# Altium integrated library Altera FLEX 8000.IntLib: 65 symbols (part 3 of 5)
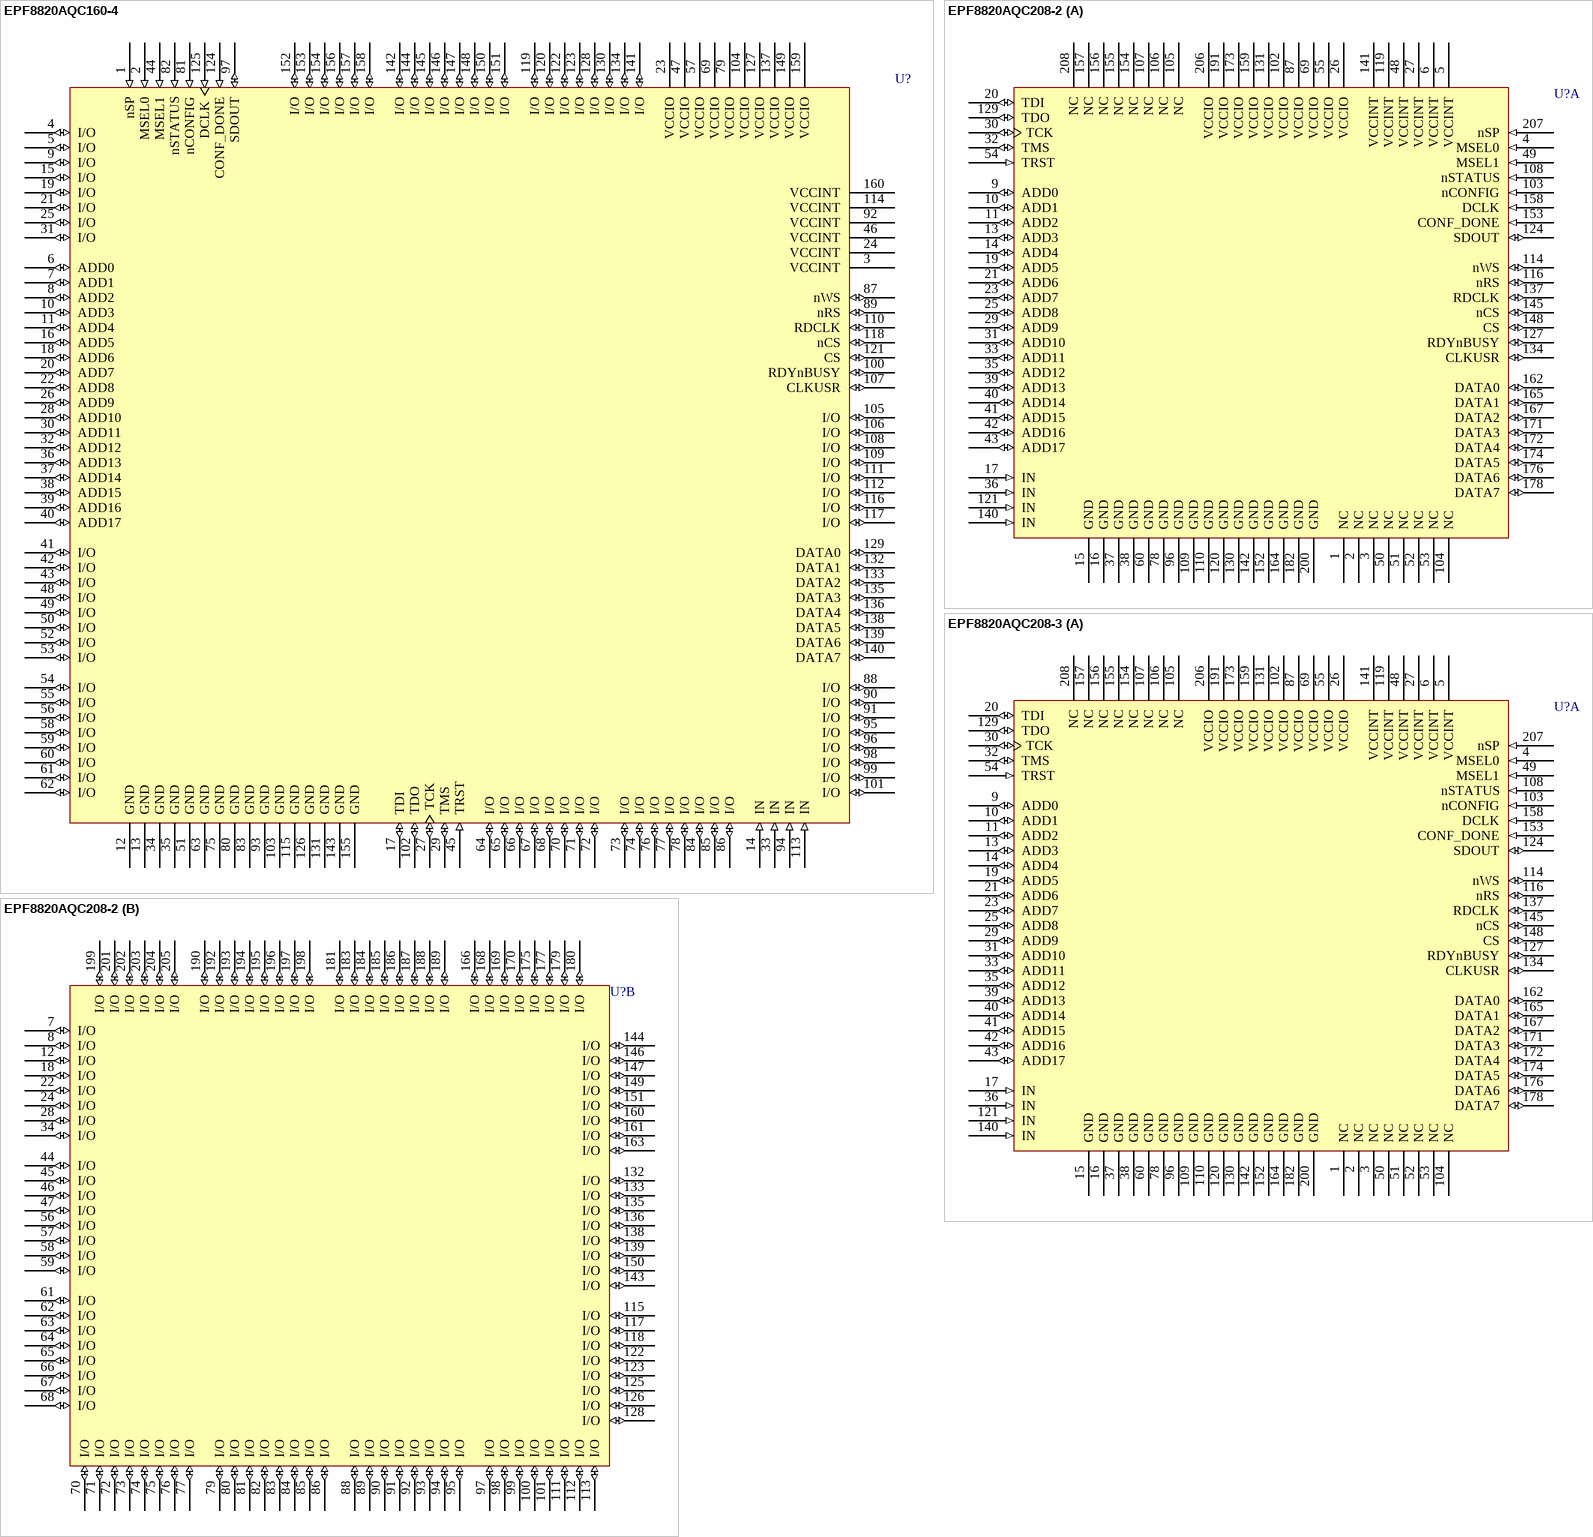
[diagram p41: symbols EPF8820AQC160-4 to EPF8820AQC208-3]

## EPF8820AQC208-2
designator U?
FLEX EPF8820A 5.0V PLD, 152 User IO Pins, 208-Pin PQFP, Speed Grade 2, Commercial Grade; Published: 24-Nov-2000; LatestRevisionDate: 13-Apr-2006; LatestRevisionNote: IPC-7351 Footprint Added.; DatasheetVersion: ver11.1, Jan-2003; PackageVersion: ver14.1, Oct-2005; PackageReference: PQFP208; Publisher: Altium Limited; PackageDescription: 208-Pin Plastic Quad Flat Pack (PQFP208); Code_JEDEC: MS-029-FA-1; ComponentLink1Description: Manufacturer Link; ComponentLink1URL: http://www.altera.com/products/devices/flex8k/f8k-index.html; ComponentLink2Description: Datasheet; ComponentLink2URL: http://www.altera.com/literature/ds/dsf8k.pdf
footprint PQFP208_N (Shrink QFP, 208-Leads, Body 28x28mm, Pitch 0.5mm, IPC Medium Density)
footprint PQFP208_L (Shrink QFP, 208-Leads, Body 28x28mm, Pitch 0.5mm, IPC High Density)
footprint PQFP208_M (Shrink QFP, 208-Leads, Body 28x28mm, Pitch 0.5mm, IPC Low Density)
3D model EPF8820A-PQFP208 (208-Pin Plastic Quad Flat Pack (PQFP208))
part A pins: 1 NC, 2 NC, 3 NC, 4 MSEL0 (in), 5 VCCINT (power), 6 VCCINT (power), 9 ADD0 (io), 10 ADD1 (io), 11 ADD2 (io), 13 ADD3 (io), 14 ADD4 (io), 15 GND (power), 16 GND (power), 17 IN (in), 19 ADD5 (io), 20 TDI (io), 21 ADD6 (io), 23 ADD7 (io), 25 ADD8 (io), 26 VCCIO (power), 27 VCCINT (power), 29 ADD9 (io), 30 TCK (io), 31 ADD10 (io), 32 TMS (io), 33 ADD11 (io), 35 ADD12 (io), 36 IN (in), 37 GND (power), 38 GND (power), 39 ADD13 (io), 40 ADD14 (io), 41 ADD15 (io), 42 ADD16 (io), 43 ADD17 (io), 48 VCCINT (power), 49 MSEL1 (in), 50 NC, 51 NC, 52 NC, 53 NC, 54 TRST (in), 55 VCCIO (power), 60 GND (power), 69 VCCIO (power), 78 GND (power), 87 VCCIO (power), 96 GND (power), 102 VCCIO (power), 103 nCONFIG (in), 104 NC, 105 NC, 106 NC, 107 NC, 108 nSTATUS (in), 109 GND (power), 110 GND (power), 114 nWS (io), 116 nRS (io), 119 VCCINT (power), 120 GND (power), 121 IN (in), 124 SDOUT (io), 127 RDYnBUSY (io), 129 TDO (io), 130 GND (power), 131 VCCIO (power), 134 CLKUSR (io), 137 RDCLK (io), 140 IN (in), 141 VCCINT (power), 142 GND (power), 145 nCS (io), 148 CS (io), 152 GND (power), 153 CONF_DONE (in), 154 NC, 155 NC, 156 NC, 157 NC, 158 DCLK (in), 159 VCCIO (power), 162 DATA0 (io), 164 GND (power), 165 DATA1 (io), 167 DATA2 (io), 171 DATA3 (io), 172 DATA4 (io), 173 VCCIO (power), 174 DATA5 (io), 176 DATA6 (io), 178 DATA7 (io), 182 GND (power), 191 VCCIO (power), 200 GND (power), 206 VCCIO (power), 207 nSP (in), 208 NC
part B pins: 7 I/O (io), 8 I/O (io), 12 I/O (io), 18 I/O (io), 22 I/O (io), 24 I/O (io), 28 I/O (io), 34 I/O (io), 44 I/O (io), 45 I/O (io), 46 I/O (io), 47 I/O (io), 56 I/O (io), 57 I/O (io), 58 I/O (io), 59 I/O (io), 61 I/O (io), 62 I/O (io), 63 I/O (io), 64 I/O (io), 65 I/O (io), 66 I/O (io), 67 I/O (io), 68 I/O (io), 70 I/O (io), 71 I/O (io), 72 I/O (io), 73 I/O (io), 74 I/O (io), 75 I/O (io), 76 I/O (io), 77 I/O (io), 79 I/O (io), 80 I/O (io), 81 I/O (io), 82 I/O (io), 83 I/O (io), 84 I/O (io), 85 I/O (io), 86 I/O (io), 88 I/O (io), 89 I/O (io), 90 I/O (io), 91 I/O (io), 92 I/O (io), 93 I/O (io), 94 I/O (io), 95 I/O (io), 97 I/O (io), 98 I/O (io), 99 I/O (io), 100 I/O (io), 101 I/O (io), 111 I/O (io), 112 I/O (io), 113 I/O (io), 115 I/O (io), 117 I/O (io), 118 I/O (io), 122 I/O (io), 123 I/O (io), 125 I/O (io), 126 I/O (io), 128 I/O (io), 132 I/O (io), 133 I/O (io), 135 I/O (io), 136 I/O (io), 138 I/O (io), 139 I/O (io), 143 I/O (io), 144 I/O (io), 146 I/O (io), 147 I/O (io), 149 I/O (io), 150 I/O (io), 151 I/O (io), 160 I/O (io), 161 I/O (io), 163 I/O (io), 166 I/O (io), 168 I/O (io), 169 I/O (io), 170 I/O (io), 175 I/O (io), 177 I/O (io), 179 I/O (io), 180 I/O (io), 181 I/O (io), 183 I/O (io), 184 I/O (io), 185 I/O (io), 186 I/O (io), 187 I/O (io), 188 I/O (io), 189 I/O (io), 190 I/O (io), 192 I/O (io), 193 I/O (io), 194 I/O (io), 195 I/O (io), 196 I/O (io), 197 I/O (io), 198 I/O (io), 199 I/O (io), 201 I/O (io), 202 I/O (io), 203 I/O (io), 204 I/O (io), 205 I/O (io)

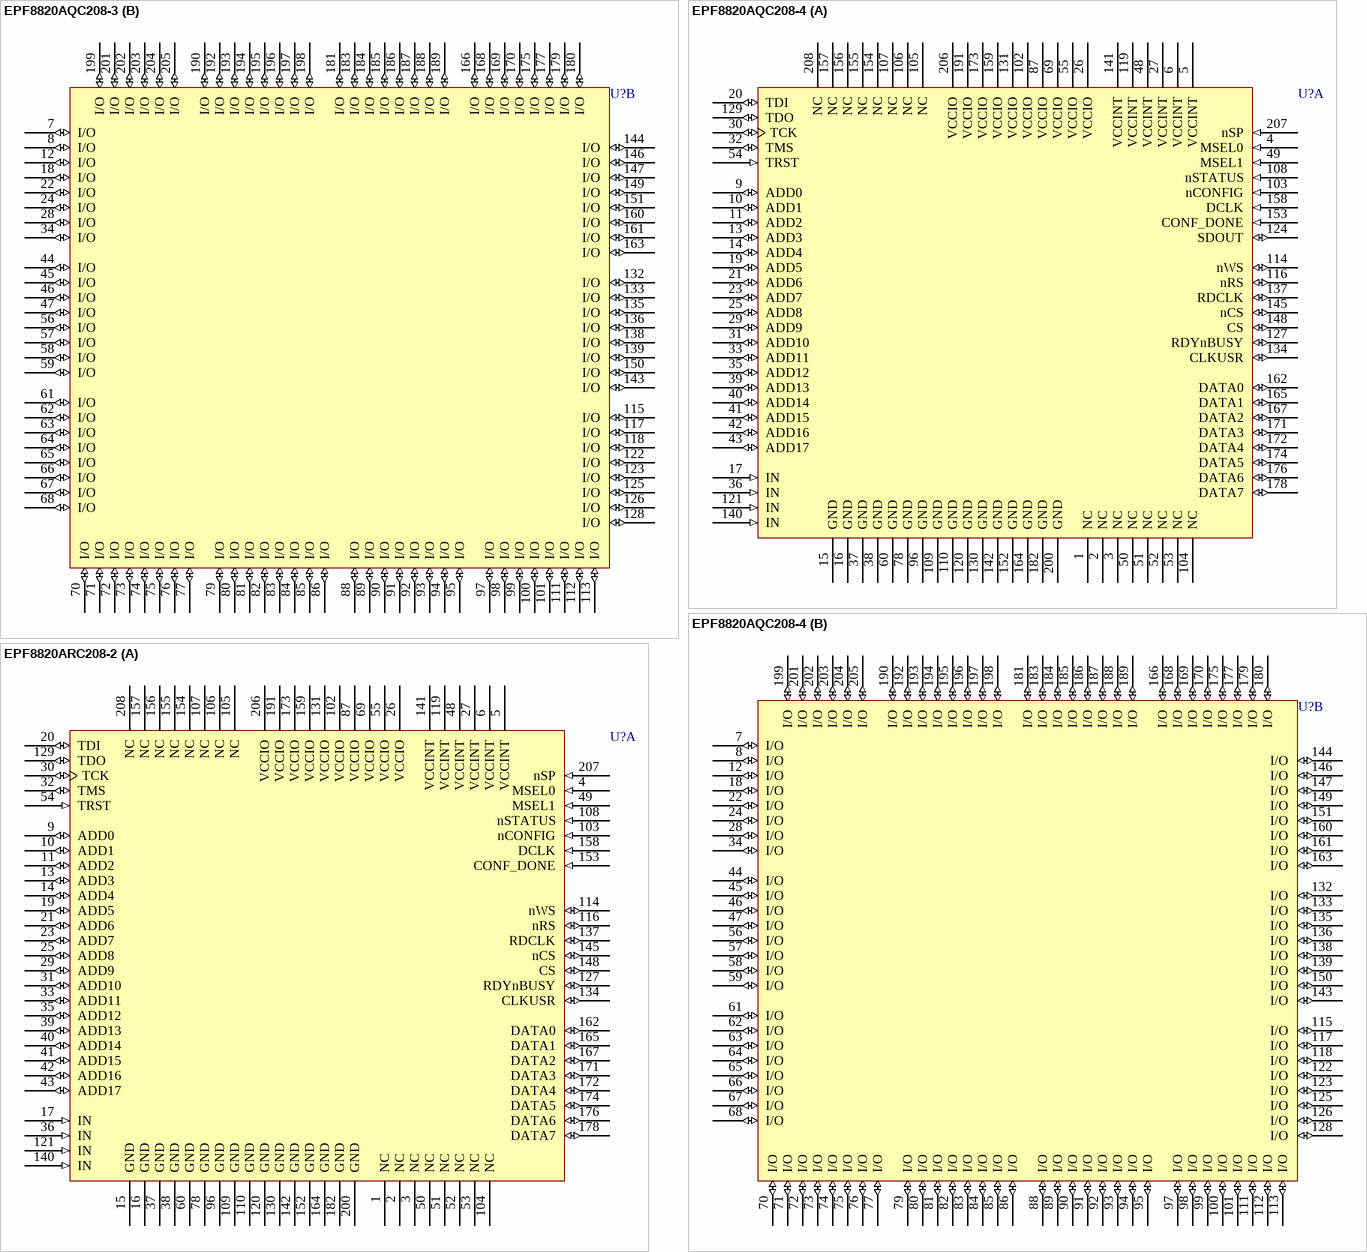
[diagram p14: symbols EPF8820AQC208-3 to EPF8820ARC208-2]

## EPF8820AQC208-3
designator U?
FLEX EPF8820A 5.0V PLD, 152 User IO Pins, 208-Pin PQFP, Speed Grade 3, Commercial Grade; Published: 24-Nov-2000; LatestRevisionDate: 13-Apr-2006; LatestRevisionNote: IPC-7351 Footprint Added.; DatasheetVersion: ver11.1, Jan-2003; PackageVersion: ver14.1, Oct-2005; PackageReference: PQFP208; Publisher: Altium Limited; PackageDescription: 208-Pin Plastic Quad Flat Pack (PQFP208); Code_JEDEC: MS-029-FA-1; ComponentLink1Description: Manufacturer Link; ComponentLink1URL: http://www.altera.com/products/devices/flex8k/f8k-index.html; ComponentLink2Description: Datasheet; ComponentLink2URL: http://www.altera.com/literature/ds/dsf8k.pdf
footprint PQFP208_N (Shrink QFP, 208-Leads, Body 28x28mm, Pitch 0.5mm, IPC Medium Density)
footprint PQFP208_L (Shrink QFP, 208-Leads, Body 28x28mm, Pitch 0.5mm, IPC High Density)
footprint PQFP208_M (Shrink QFP, 208-Leads, Body 28x28mm, Pitch 0.5mm, IPC Low Density)
3D model EPF8820A-PQFP208 (208-Pin Plastic Quad Flat Pack (PQFP208))
part A pins: 1 NC, 2 NC, 3 NC, 4 MSEL0 (in), 5 VCCINT (power), 6 VCCINT (power), 9 ADD0 (io), 10 ADD1 (io), 11 ADD2 (io), 13 ADD3 (io), 14 ADD4 (io), 15 GND (power), 16 GND (power), 17 IN (in), 19 ADD5 (io), 20 TDI (io), 21 ADD6 (io), 23 ADD7 (io), 25 ADD8 (io), 26 VCCIO (power), 27 VCCINT (power), 29 ADD9 (io), 30 TCK (io), 31 ADD10 (io), 32 TMS (io), 33 ADD11 (io), 35 ADD12 (io), 36 IN (in), 37 GND (power), 38 GND (power), 39 ADD13 (io), 40 ADD14 (io), 41 ADD15 (io), 42 ADD16 (io), 43 ADD17 (io), 48 VCCINT (power), 49 MSEL1 (in), 50 NC, 51 NC, 52 NC, 53 NC, 54 TRST (in), 55 VCCIO (power), 60 GND (power), 69 VCCIO (power), 78 GND (power), 87 VCCIO (power), 96 GND (power), 102 VCCIO (power), 103 nCONFIG (in), 104 NC, 105 NC, 106 NC, 107 NC, 108 nSTATUS (in), 109 GND (power), 110 GND (power), 114 nWS (io), 116 nRS (io), 119 VCCINT (power), 120 GND (power), 121 IN (in), 124 SDOUT (io), 127 RDYnBUSY (io), 129 TDO (io), 130 GND (power), 131 VCCIO (power), 134 CLKUSR (io), 137 RDCLK (io), 140 IN (in), 141 VCCINT (power), 142 GND (power), 145 nCS (io), 148 CS (io), 152 GND (power), 153 CONF_DONE (in), 154 NC, 155 NC, 156 NC, 157 NC, 158 DCLK (in), 159 VCCIO (power), 162 DATA0 (io), 164 GND (power), 165 DATA1 (io), 167 DATA2 (io), 171 DATA3 (io), 172 DATA4 (io), 173 VCCIO (power), 174 DATA5 (io), 176 DATA6 (io), 178 DATA7 (io), 182 GND (power), 191 VCCIO (power), 200 GND (power), 206 VCCIO (power), 207 nSP (in), 208 NC
part B pins: 7 I/O (io), 8 I/O (io), 12 I/O (io), 18 I/O (io), 22 I/O (io), 24 I/O (io), 28 I/O (io), 34 I/O (io), 44 I/O (io), 45 I/O (io), 46 I/O (io), 47 I/O (io), 56 I/O (io), 57 I/O (io), 58 I/O (io), 59 I/O (io), 61 I/O (io), 62 I/O (io), 63 I/O (io), 64 I/O (io), 65 I/O (io), 66 I/O (io), 67 I/O (io), 68 I/O (io), 70 I/O (io), 71 I/O (io), 72 I/O (io), 73 I/O (io), 74 I/O (io), 75 I/O (io), 76 I/O (io), 77 I/O (io), 79 I/O (io), 80 I/O (io), 81 I/O (io), 82 I/O (io), 83 I/O (io), 84 I/O (io), 85 I/O (io), 86 I/O (io), 88 I/O (io), 89 I/O (io), 90 I/O (io), 91 I/O (io), 92 I/O (io), 93 I/O (io), 94 I/O (io), 95 I/O (io), 97 I/O (io), 98 I/O (io), 99 I/O (io), 100 I/O (io), 101 I/O (io), 111 I/O (io), 112 I/O (io), 113 I/O (io), 115 I/O (io), 117 I/O (io), 118 I/O (io), 122 I/O (io), 123 I/O (io), 125 I/O (io), 126 I/O (io), 128 I/O (io), 132 I/O (io), 133 I/O (io), 135 I/O (io), 136 I/O (io), 138 I/O (io), 139 I/O (io), 143 I/O (io), 144 I/O (io), 146 I/O (io), 147 I/O (io), 149 I/O (io), 150 I/O (io), 151 I/O (io), 160 I/O (io), 161 I/O (io), 163 I/O (io), 166 I/O (io), 168 I/O (io), 169 I/O (io), 170 I/O (io), 175 I/O (io), 177 I/O (io), 179 I/O (io), 180 I/O (io), 181 I/O (io), 183 I/O (io), 184 I/O (io), 185 I/O (io), 186 I/O (io), 187 I/O (io), 188 I/O (io), 189 I/O (io), 190 I/O (io), 192 I/O (io), 193 I/O (io), 194 I/O (io), 195 I/O (io), 196 I/O (io), 197 I/O (io), 198 I/O (io), 199 I/O (io), 201 I/O (io), 202 I/O (io), 203 I/O (io), 204 I/O (io), 205 I/O (io)

## EPF8820AQC208-4
designator U?
FLEX EPF8820A 5.0V PLD, 152 User IO Pins, 208-Pin PQFP, Speed Grade 4, Commercial Grade; Published: 24-Nov-2000; LatestRevisionDate: 13-Apr-2006; LatestRevisionNote: IPC-7351 Footprint Added.; DatasheetVersion: ver11.1, Jan-2003; PackageVersion: ver14.1, Oct-2005; PackageReference: PQFP208; Publisher: Altium Limited; PackageDescription: 208-Pin Plastic Quad Flat Pack (PQFP208); Code_JEDEC: MS-029-FA-1; ComponentLink1Description: Manufacturer Link; ComponentLink1URL: http://www.altera.com/products/devices/flex8k/f8k-index.html; ComponentLink2Description: Datasheet; ComponentLink2URL: http://www.altera.com/literature/ds/dsf8k.pdf
footprint PQFP208_N (Shrink QFP, 208-Leads, Body 28x28mm, Pitch 0.5mm, IPC Medium Density)
footprint PQFP208_L (Shrink QFP, 208-Leads, Body 28x28mm, Pitch 0.5mm, IPC High Density)
footprint PQFP208_M (Shrink QFP, 208-Leads, Body 28x28mm, Pitch 0.5mm, IPC Low Density)
3D model EPF8820A-PQFP208 (208-Pin Plastic Quad Flat Pack (PQFP208))
part A pins: 1 NC, 2 NC, 3 NC, 4 MSEL0 (in), 5 VCCINT (power), 6 VCCINT (power), 9 ADD0 (io), 10 ADD1 (io), 11 ADD2 (io), 13 ADD3 (io), 14 ADD4 (io), 15 GND (power), 16 GND (power), 17 IN (in), 19 ADD5 (io), 20 TDI (io), 21 ADD6 (io), 23 ADD7 (io), 25 ADD8 (io), 26 VCCIO (power), 27 VCCINT (power), 29 ADD9 (io), 30 TCK (io), 31 ADD10 (io), 32 TMS (io), 33 ADD11 (io), 35 ADD12 (io), 36 IN (in), 37 GND (power), 38 GND (power), 39 ADD13 (io), 40 ADD14 (io), 41 ADD15 (io), 42 ADD16 (io), 43 ADD17 (io), 48 VCCINT (power), 49 MSEL1 (in), 50 NC, 51 NC, 52 NC, 53 NC, 54 TRST (in), 55 VCCIO (power), 60 GND (power), 69 VCCIO (power), 78 GND (power), 87 VCCIO (power), 96 GND (power), 102 VCCIO (power), 103 nCONFIG (in), 104 NC, 105 NC, 106 NC, 107 NC, 108 nSTATUS (in), 109 GND (power), 110 GND (power), 114 nWS (io), 116 nRS (io), 119 VCCINT (power), 120 GND (power), 121 IN (in), 124 SDOUT (io), 127 RDYnBUSY (io), 129 TDO (io), 130 GND (power), 131 VCCIO (power), 134 CLKUSR (io), 137 RDCLK (io), 140 IN (in), 141 VCCINT (power), 142 GND (power), 145 nCS (io), 148 CS (io), 152 GND (power), 153 CONF_DONE (in), 154 NC, 155 NC, 156 NC, 157 NC, 158 DCLK (in), 159 VCCIO (power), 162 DATA0 (io), 164 GND (power), 165 DATA1 (io), 167 DATA2 (io), 171 DATA3 (io), 172 DATA4 (io), 173 VCCIO (power), 174 DATA5 (io), 176 DATA6 (io), 178 DATA7 (io), 182 GND (power), 191 VCCIO (power), 200 GND (power), 206 VCCIO (power), 207 nSP (in), 208 NC
part B pins: 7 I/O (io), 8 I/O (io), 12 I/O (io), 18 I/O (io), 22 I/O (io), 24 I/O (io), 28 I/O (io), 34 I/O (io), 44 I/O (io), 45 I/O (io), 46 I/O (io), 47 I/O (io), 56 I/O (io), 57 I/O (io), 58 I/O (io), 59 I/O (io), 61 I/O (io), 62 I/O (io), 63 I/O (io), 64 I/O (io), 65 I/O (io), 66 I/O (io), 67 I/O (io), 68 I/O (io), 70 I/O (io), 71 I/O (io), 72 I/O (io), 73 I/O (io), 74 I/O (io), 75 I/O (io), 76 I/O (io), 77 I/O (io), 79 I/O (io), 80 I/O (io), 81 I/O (io), 82 I/O (io), 83 I/O (io), 84 I/O (io), 85 I/O (io), 86 I/O (io), 88 I/O (io), 89 I/O (io), 90 I/O (io), 91 I/O (io), 92 I/O (io), 93 I/O (io), 94 I/O (io), 95 I/O (io), 97 I/O (io), 98 I/O (io), 99 I/O (io), 100 I/O (io), 101 I/O (io), 111 I/O (io), 112 I/O (io), 113 I/O (io), 115 I/O (io), 117 I/O (io), 118 I/O (io), 122 I/O (io), 123 I/O (io), 125 I/O (io), 126 I/O (io), 128 I/O (io), 132 I/O (io), 133 I/O (io), 135 I/O (io), 136 I/O (io), 138 I/O (io), 139 I/O (io), 143 I/O (io), 144 I/O (io), 146 I/O (io), 147 I/O (io), 149 I/O (io), 150 I/O (io), 151 I/O (io), 160 I/O (io), 161 I/O (io), 163 I/O (io), 166 I/O (io), 168 I/O (io), 169 I/O (io), 170 I/O (io), 175 I/O (io), 177 I/O (io), 179 I/O (io), 180 I/O (io), 181 I/O (io), 183 I/O (io), 184 I/O (io), 185 I/O (io), 186 I/O (io), 187 I/O (io), 188 I/O (io), 189 I/O (io), 190 I/O (io), 192 I/O (io), 193 I/O (io), 194 I/O (io), 195 I/O (io), 196 I/O (io), 197 I/O (io), 198 I/O (io), 199 I/O (io), 201 I/O (io), 202 I/O (io), 203 I/O (io), 204 I/O (io), 205 I/O (io)

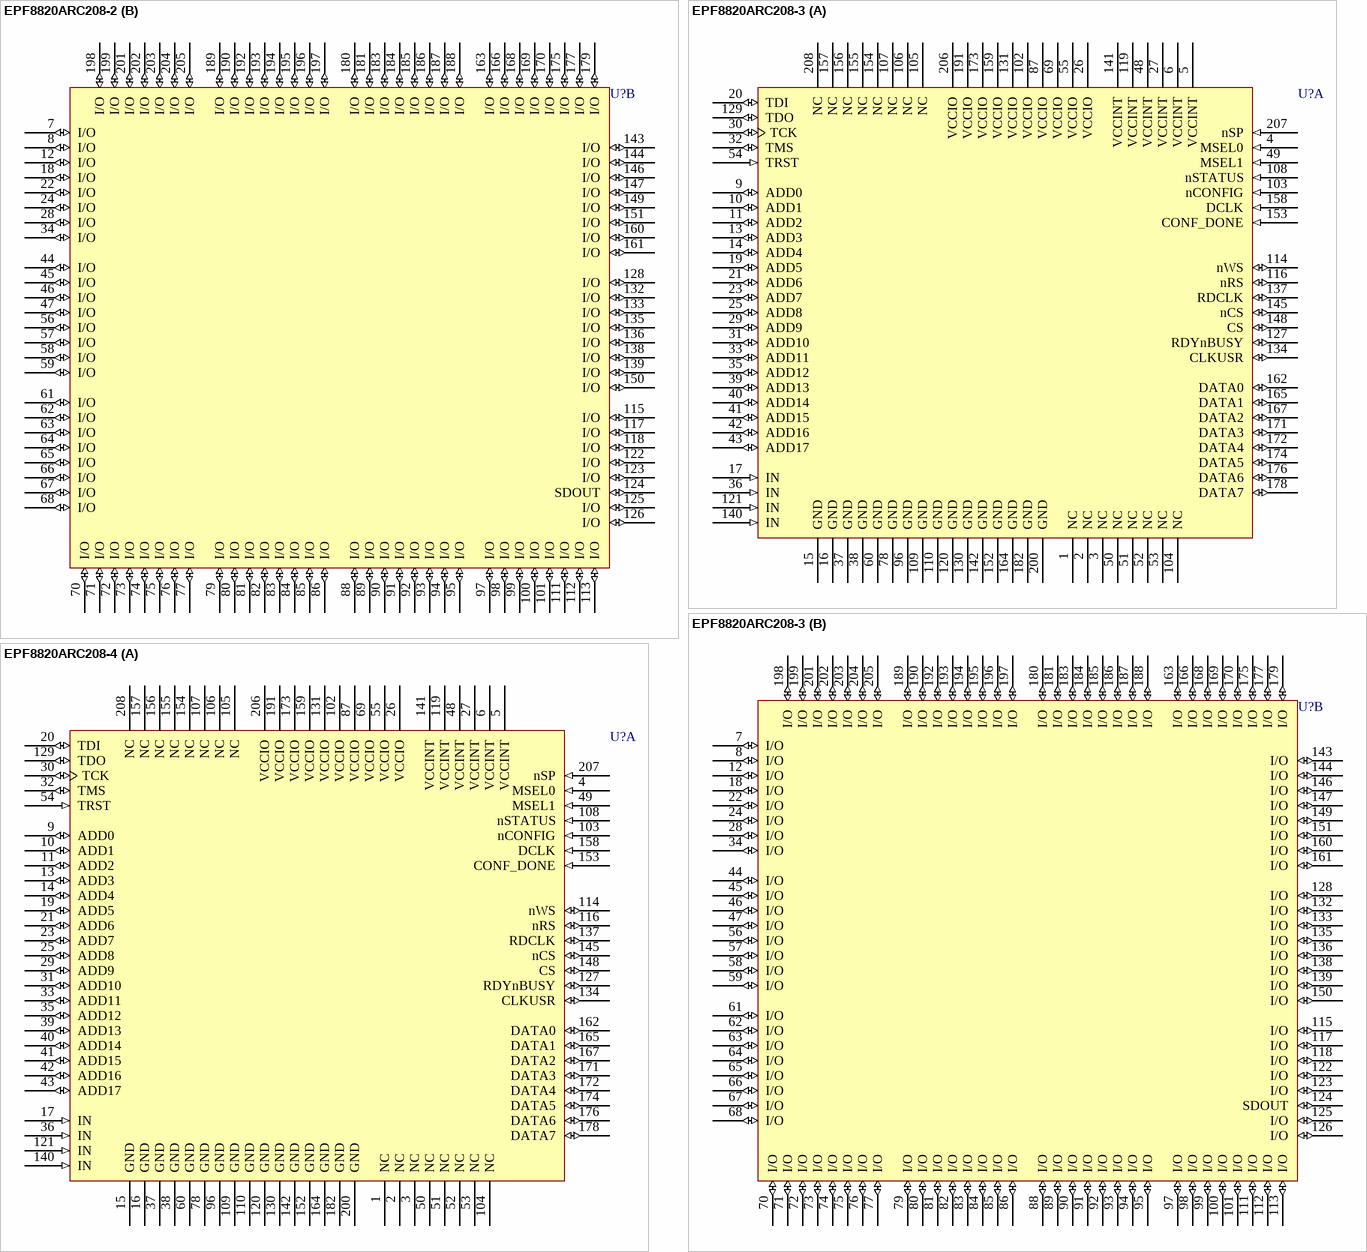
[diagram p15: symbols EPF8820ARC208-2 to EPF8820ARC208-4]

## EPF8820ARC208-2
designator U?
FLEX EPF8820A 5.0V PLD, 152 User IO Pins, 208-Pin RQFP, Speed Grade 2, Commercial Grade; Published: 24-Nov-2000; LatestRevisionDate: 13-Apr-2006; LatestRevisionNote: IPC-7351 Footprint Added.; DatasheetVersion: ver11.1, Jan-2003; PackageVersion: ver14.1, Oct-2005; PackageReference: RQFP208; Publisher: Altium Limited; PackageDescription: 208-Pin Power Quad Flat Pack (RQFP208); Code_JEDEC: MS-029-FA-1; ComponentLink1Description: Manufacturer Link; ComponentLink1URL: http://www.altera.com/products/devices/flex8k/f8k-index.html
footprint RQFP208_N (Shrink QFP, 208-Leads, Body 28x28mm, Pitch 0.5mm, IPC Medium Density)
footprint RQFP208_L (Shrink QFP, 208-Leads, Body 28x28mm, Pitch 0.5mm, IPC High Density)
footprint RQFP208_M (Shrink QFP, 208-Leads, Body 28x28mm, Pitch 0.5mm, IPC Low Density)
3D model EPF8820A-RQFP208 (208-Pin Power Quad Flat Pack (RQFP208))
part A pins: 1 NC, 2 NC, 3 NC, 4 MSEL0 (in), 5 VCCINT (power), 6 VCCINT (power), 9 ADD0 (io), 10 ADD1 (io), 11 ADD2 (io), 13 ADD3 (io), 14 ADD4 (io), 15 GND (power), 16 GND (power), 17 IN (in), 19 ADD5 (io), 20 TDI (io), 21 ADD6 (io), 23 ADD7 (io), 25 ADD8 (io), 26 VCCIO (power), 27 VCCINT (power), 29 ADD9 (io), 30 TCK (io), 31 ADD10 (io), 32 TMS (io), 33 ADD11 (io), 35 ADD12 (io), 36 IN (in), 37 GND (power), 38 GND (power), 39 ADD13 (io), 40 ADD14 (io), 41 ADD15 (io), 42 ADD16 (io), 43 ADD17 (io), 48 VCCINT (power), 49 MSEL1 (in), 50 NC, 51 NC, 52 NC, 53 NC, 54 TRST (in), 55 VCCIO (power), 60 GND (power), 69 VCCIO (power), 78 GND (power), 87 VCCIO (power), 96 GND (power), 102 VCCIO (power), 103 nCONFIG (in), 104 NC, 105 NC, 106 NC, 107 NC, 108 nSTATUS (in), 109 GND (power), 110 GND (power), 114 nWS (io), 116 nRS (io), 119 VCCINT (power), 120 GND (power), 121 IN (in), 127 RDYnBUSY (io), 129 TDO (io), 130 GND (power), 131 VCCIO (power), 134 CLKUSR (io), 137 RDCLK (io), 140 IN (in), 141 VCCINT (power), 142 GND (power), 145 nCS (io), 148 CS (io), 152 GND (power), 153 CONF_DONE (in), 154 NC, 155 NC, 156 NC, 157 NC, 158 DCLK (in), 159 VCCIO (power), 162 DATA0 (io), 164 GND (power), 165 DATA1 (io), 167 DATA2 (io), 171 DATA3 (io), 172 DATA4 (io), 173 VCCIO (power), 174 DATA5 (io), 176 DATA6 (io), 178 DATA7 (io), 182 GND (power), 191 VCCIO (power), 200 GND (power), 206 VCCIO (power), 207 nSP (in), 208 NC
part B pins: 7 I/O (io), 8 I/O (io), 12 I/O (io), 18 I/O (io), 22 I/O (io), 24 I/O (io), 28 I/O (io), 34 I/O (io), 44 I/O (io), 45 I/O (io), 46 I/O (io), 47 I/O (io), 56 I/O (io), 57 I/O (io), 58 I/O (io), 59 I/O (io), 61 I/O (io), 62 I/O (io), 63 I/O (io), 64 I/O (io), 65 I/O (io), 66 I/O (io), 67 I/O (io), 68 I/O (io), 70 I/O (io), 71 I/O (io), 72 I/O (io), 73 I/O (io), 74 I/O (io), 75 I/O (io), 76 I/O (io), 77 I/O (io), 79 I/O (io), 80 I/O (io), 81 I/O (io), 82 I/O (io), 83 I/O (io), 84 I/O (io), 85 I/O (io), 86 I/O (io), 88 I/O (io), 89 I/O (io), 90 I/O (io), 91 I/O (io), 92 I/O (io), 93 I/O (io), 94 I/O (io), 95 I/O (io), 97 I/O (io), 98 I/O (io), 99 I/O (io), 100 I/O (io), 101 I/O (io), 111 I/O (io), 112 I/O (io), 113 I/O (io), 115 I/O (io), 117 I/O (io), 118 I/O (io), 122 I/O (io), 123 I/O (io), 124 SDOUT (io), 125 I/O (io), 126 I/O (io), 128 I/O (io), 132 I/O (io), 133 I/O (io), 135 I/O (io), 136 I/O (io), 138 I/O (io), 139 I/O (io), 143 I/O (io), 144 I/O (io), 146 I/O (io), 147 I/O (io), 149 I/O (io), 150 I/O (io), 151 I/O (io), 160 I/O (io), 161 I/O (io), 163 I/O (io), 166 I/O (io), 168 I/O (io), 169 I/O (io), 170 I/O (io), 175 I/O (io), 177 I/O (io), 179 I/O (io), 180 I/O (io), 181 I/O (io), 183 I/O (io), 184 I/O (io), 185 I/O (io), 186 I/O (io), 187 I/O (io), 188 I/O (io), 189 I/O (io), 190 I/O (io), 192 I/O (io), 193 I/O (io), 194 I/O (io), 195 I/O (io), 196 I/O (io), 197 I/O (io), 198 I/O (io), 199 I/O (io), 201 I/O (io), 202 I/O (io), 203 I/O (io), 204 I/O (io), 205 I/O (io)

## EPF8820ARC208-3
designator U?
FLEX EPF8820A 5.0V PLD, 152 User IO Pins, 208-Pin RQFP, Speed Grade 3, Commercial Grade; Published: 24-Nov-2000; LatestRevisionDate: 13-Apr-2006; LatestRevisionNote: IPC-7351 Footprint Added.; DatasheetVersion: ver11.1, Jan-2003; PackageVersion: ver14.1, Oct-2005; PackageReference: RQFP208; Publisher: Altium Limited; PackageDescription: 208-Pin Power Quad Flat Pack (RQFP208); Code_JEDEC: MS-029-FA-1; ComponentLink1Description: Manufacturer Link; ComponentLink1URL: http://www.altera.com/products/devices/flex8k/f8k-index.html
footprint RQFP208_N (Shrink QFP, 208-Leads, Body 28x28mm, Pitch 0.5mm, IPC Medium Density)
footprint RQFP208_L (Shrink QFP, 208-Leads, Body 28x28mm, Pitch 0.5mm, IPC High Density)
footprint RQFP208_M (Shrink QFP, 208-Leads, Body 28x28mm, Pitch 0.5mm, IPC Low Density)
3D model EPF8820A-RQFP208 (208-Pin Power Quad Flat Pack (RQFP208))
part A pins: 1 NC, 2 NC, 3 NC, 4 MSEL0 (in), 5 VCCINT (power), 6 VCCINT (power), 9 ADD0 (io), 10 ADD1 (io), 11 ADD2 (io), 13 ADD3 (io), 14 ADD4 (io), 15 GND (power), 16 GND (power), 17 IN (in), 19 ADD5 (io), 20 TDI (io), 21 ADD6 (io), 23 ADD7 (io), 25 ADD8 (io), 26 VCCIO (power), 27 VCCINT (power), 29 ADD9 (io), 30 TCK (io), 31 ADD10 (io), 32 TMS (io), 33 ADD11 (io), 35 ADD12 (io), 36 IN (in), 37 GND (power), 38 GND (power), 39 ADD13 (io), 40 ADD14 (io), 41 ADD15 (io), 42 ADD16 (io), 43 ADD17 (io), 48 VCCINT (power), 49 MSEL1 (in), 50 NC, 51 NC, 52 NC, 53 NC, 54 TRST (in), 55 VCCIO (power), 60 GND (power), 69 VCCIO (power), 78 GND (power), 87 VCCIO (power), 96 GND (power), 102 VCCIO (power), 103 nCONFIG (in), 104 NC, 105 NC, 106 NC, 107 NC, 108 nSTATUS (in), 109 GND (power), 110 GND (power), 114 nWS (io), 116 nRS (io), 119 VCCINT (power), 120 GND (power), 121 IN (in), 127 RDYnBUSY (io), 129 TDO (io), 130 GND (power), 131 VCCIO (power), 134 CLKUSR (io), 137 RDCLK (io), 140 IN (in), 141 VCCINT (power), 142 GND (power), 145 nCS (io), 148 CS (io), 152 GND (power), 153 CONF_DONE (in), 154 NC, 155 NC, 156 NC, 157 NC, 158 DCLK (in), 159 VCCIO (power), 162 DATA0 (io), 164 GND (power), 165 DATA1 (io), 167 DATA2 (io), 171 DATA3 (io), 172 DATA4 (io), 173 VCCIO (power), 174 DATA5 (io), 176 DATA6 (io), 178 DATA7 (io), 182 GND (power), 191 VCCIO (power), 200 GND (power), 206 VCCIO (power), 207 nSP (in), 208 NC
part B pins: 7 I/O (io), 8 I/O (io), 12 I/O (io), 18 I/O (io), 22 I/O (io), 24 I/O (io), 28 I/O (io), 34 I/O (io), 44 I/O (io), 45 I/O (io), 46 I/O (io), 47 I/O (io), 56 I/O (io), 57 I/O (io), 58 I/O (io), 59 I/O (io), 61 I/O (io), 62 I/O (io), 63 I/O (io), 64 I/O (io), 65 I/O (io), 66 I/O (io), 67 I/O (io), 68 I/O (io), 70 I/O (io), 71 I/O (io), 72 I/O (io), 73 I/O (io), 74 I/O (io), 75 I/O (io), 76 I/O (io), 77 I/O (io), 79 I/O (io), 80 I/O (io), 81 I/O (io), 82 I/O (io), 83 I/O (io), 84 I/O (io), 85 I/O (io), 86 I/O (io), 88 I/O (io), 89 I/O (io), 90 I/O (io), 91 I/O (io), 92 I/O (io), 93 I/O (io), 94 I/O (io), 95 I/O (io), 97 I/O (io), 98 I/O (io), 99 I/O (io), 100 I/O (io), 101 I/O (io), 111 I/O (io), 112 I/O (io), 113 I/O (io), 115 I/O (io), 117 I/O (io), 118 I/O (io), 122 I/O (io), 123 I/O (io), 124 SDOUT (io), 125 I/O (io), 126 I/O (io), 128 I/O (io), 132 I/O (io), 133 I/O (io), 135 I/O (io), 136 I/O (io), 138 I/O (io), 139 I/O (io), 143 I/O (io), 144 I/O (io), 146 I/O (io), 147 I/O (io), 149 I/O (io), 150 I/O (io), 151 I/O (io), 160 I/O (io), 161 I/O (io), 163 I/O (io), 166 I/O (io), 168 I/O (io), 169 I/O (io), 170 I/O (io), 175 I/O (io), 177 I/O (io), 179 I/O (io), 180 I/O (io), 181 I/O (io), 183 I/O (io), 184 I/O (io), 185 I/O (io), 186 I/O (io), 187 I/O (io), 188 I/O (io), 189 I/O (io), 190 I/O (io), 192 I/O (io), 193 I/O (io), 194 I/O (io), 195 I/O (io), 196 I/O (io), 197 I/O (io), 198 I/O (io), 199 I/O (io), 201 I/O (io), 202 I/O (io), 203 I/O (io), 204 I/O (io), 205 I/O (io)

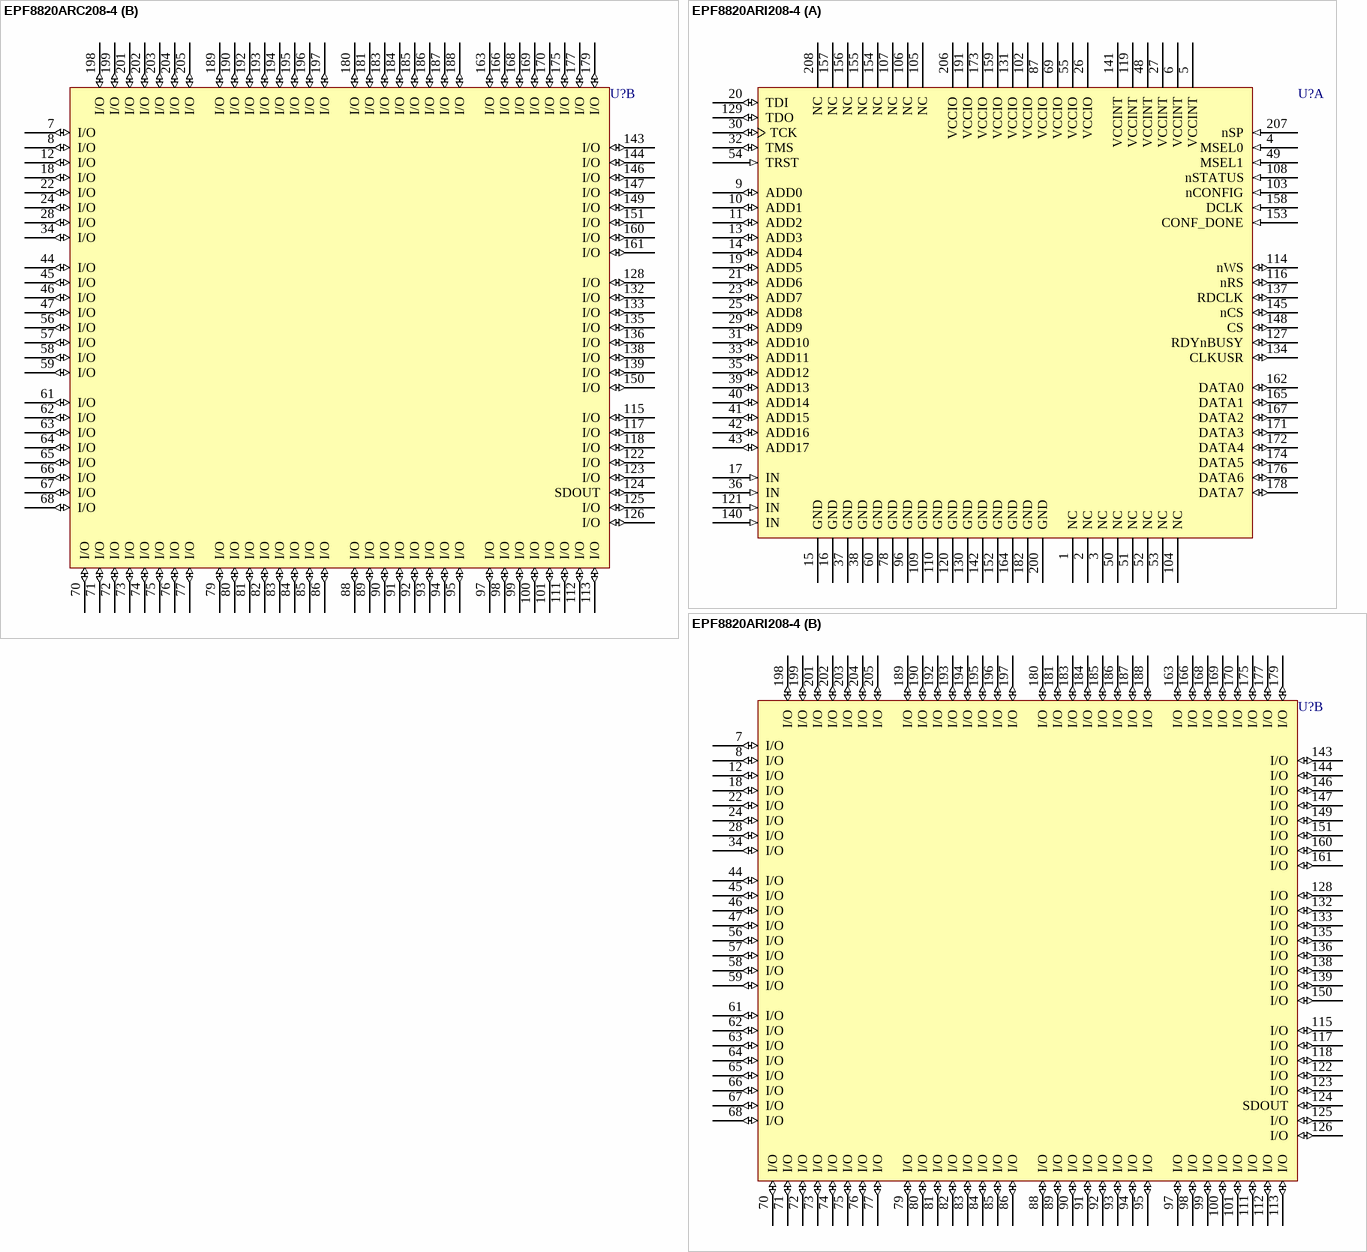
[diagram p16: symbols EPF8820ARC208-4 to EPF8820ARI208-4]

## EPF8820ARC208-4
designator U?
FLEX EPF8820A 5.0V PLD, 152 User IO Pins, 208-Pin RQFP, Speed Grade 4, Commercial Grade; Published: 24-Nov-2000; LatestRevisionDate: 13-Apr-2006; LatestRevisionNote: IPC-7351 Footprint Added.; DatasheetVersion: ver11.1, Jan-2003; PackageVersion: ver14.1, Oct-2005; PackageReference: RQFP208; Publisher: Altium Limited; PackageDescription: 208-Pin Power Quad Flat Pack (RQFP208); Code_JEDEC: MS-029-FA-1; ComponentLink1Description: Manufacturer Link; ComponentLink1URL: http://www.altera.com/products/devices/flex8k/f8k-index.html
footprint RQFP208_N (Shrink QFP, 208-Leads, Body 28x28mm, Pitch 0.5mm, IPC Medium Density)
footprint RQFP208_L (Shrink QFP, 208-Leads, Body 28x28mm, Pitch 0.5mm, IPC High Density)
footprint RQFP208_M (Shrink QFP, 208-Leads, Body 28x28mm, Pitch 0.5mm, IPC Low Density)
3D model EPF8820A-RQFP208 (208-Pin Power Quad Flat Pack (RQFP208))
part A pins: 1 NC, 2 NC, 3 NC, 4 MSEL0 (in), 5 VCCINT (power), 6 VCCINT (power), 9 ADD0 (io), 10 ADD1 (io), 11 ADD2 (io), 13 ADD3 (io), 14 ADD4 (io), 15 GND (power), 16 GND (power), 17 IN (in), 19 ADD5 (io), 20 TDI (io), 21 ADD6 (io), 23 ADD7 (io), 25 ADD8 (io), 26 VCCIO (power), 27 VCCINT (power), 29 ADD9 (io), 30 TCK (io), 31 ADD10 (io), 32 TMS (io), 33 ADD11 (io), 35 ADD12 (io), 36 IN (in), 37 GND (power), 38 GND (power), 39 ADD13 (io), 40 ADD14 (io), 41 ADD15 (io), 42 ADD16 (io), 43 ADD17 (io), 48 VCCINT (power), 49 MSEL1 (in), 50 NC, 51 NC, 52 NC, 53 NC, 54 TRST (in), 55 VCCIO (power), 60 GND (power), 69 VCCIO (power), 78 GND (power), 87 VCCIO (power), 96 GND (power), 102 VCCIO (power), 103 nCONFIG (in), 104 NC, 105 NC, 106 NC, 107 NC, 108 nSTATUS (in), 109 GND (power), 110 GND (power), 114 nWS (io), 116 nRS (io), 119 VCCINT (power), 120 GND (power), 121 IN (in), 127 RDYnBUSY (io), 129 TDO (io), 130 GND (power), 131 VCCIO (power), 134 CLKUSR (io), 137 RDCLK (io), 140 IN (in), 141 VCCINT (power), 142 GND (power), 145 nCS (io), 148 CS (io), 152 GND (power), 153 CONF_DONE (in), 154 NC, 155 NC, 156 NC, 157 NC, 158 DCLK (in), 159 VCCIO (power), 162 DATA0 (io), 164 GND (power), 165 DATA1 (io), 167 DATA2 (io), 171 DATA3 (io), 172 DATA4 (io), 173 VCCIO (power), 174 DATA5 (io), 176 DATA6 (io), 178 DATA7 (io), 182 GND (power), 191 VCCIO (power), 200 GND (power), 206 VCCIO (power), 207 nSP (in), 208 NC
part B pins: 7 I/O (io), 8 I/O (io), 12 I/O (io), 18 I/O (io), 22 I/O (io), 24 I/O (io), 28 I/O (io), 34 I/O (io), 44 I/O (io), 45 I/O (io), 46 I/O (io), 47 I/O (io), 56 I/O (io), 57 I/O (io), 58 I/O (io), 59 I/O (io), 61 I/O (io), 62 I/O (io), 63 I/O (io), 64 I/O (io), 65 I/O (io), 66 I/O (io), 67 I/O (io), 68 I/O (io), 70 I/O (io), 71 I/O (io), 72 I/O (io), 73 I/O (io), 74 I/O (io), 75 I/O (io), 76 I/O (io), 77 I/O (io), 79 I/O (io), 80 I/O (io), 81 I/O (io), 82 I/O (io), 83 I/O (io), 84 I/O (io), 85 I/O (io), 86 I/O (io), 88 I/O (io), 89 I/O (io), 90 I/O (io), 91 I/O (io), 92 I/O (io), 93 I/O (io), 94 I/O (io), 95 I/O (io), 97 I/O (io), 98 I/O (io), 99 I/O (io), 100 I/O (io), 101 I/O (io), 111 I/O (io), 112 I/O (io), 113 I/O (io), 115 I/O (io), 117 I/O (io), 118 I/O (io), 122 I/O (io), 123 I/O (io), 124 SDOUT (io), 125 I/O (io), 126 I/O (io), 128 I/O (io), 132 I/O (io), 133 I/O (io), 135 I/O (io), 136 I/O (io), 138 I/O (io), 139 I/O (io), 143 I/O (io), 144 I/O (io), 146 I/O (io), 147 I/O (io), 149 I/O (io), 150 I/O (io), 151 I/O (io), 160 I/O (io), 161 I/O (io), 163 I/O (io), 166 I/O (io), 168 I/O (io), 169 I/O (io), 170 I/O (io), 175 I/O (io), 177 I/O (io), 179 I/O (io), 180 I/O (io), 181 I/O (io), 183 I/O (io), 184 I/O (io), 185 I/O (io), 186 I/O (io), 187 I/O (io), 188 I/O (io), 189 I/O (io), 190 I/O (io), 192 I/O (io), 193 I/O (io), 194 I/O (io), 195 I/O (io), 196 I/O (io), 197 I/O (io), 198 I/O (io), 199 I/O (io), 201 I/O (io), 202 I/O (io), 203 I/O (io), 204 I/O (io), 205 I/O (io)

## EPF8820ARI208-4
designator U?
FLEX EPF8820A 5.0V PLD, 152 User IO Pins, 208-Pin RQFP, Speed Grade 4, Industrial Grade; ComponentAvailability: Obsolete; Published: 24-Nov-2000; LatestRevisionDate: 13-Apr-2006; LatestRevisionNote: IPC-7351 Footprint Added.; DatasheetVersion: Jun-1999; PackageVersion: ver14.1, Oct-2005; PackageReference: RQFP208; Publisher: Altium Limited; PackageDescription: 208-Pin Power Quad Flat Pack (RQFP208); Code_JEDEC: MS-029-FA-1; ComponentLink1Description: Manufacturer Link; ComponentLink1URL: http://www.altera.com/products/devices/flex8k/f8k-index.html; ComponentLink2Description: Discontinuation Notice; ComponentLink2URL: http://www.altera.com/literature/pcn/pdn0314.pdf
footprint RQFP208_N (Shrink QFP, 208-Leads, Body 28x28mm, Pitch 0.5mm, IPC Medium Density)
footprint RQFP208_L (Shrink QFP, 208-Leads, Body 28x28mm, Pitch 0.5mm, IPC High Density)
footprint RQFP208_M (Shrink QFP, 208-Leads, Body 28x28mm, Pitch 0.5mm, IPC Low Density)
3D model EPF8820A-RQFP208 (208-Pin Power Quad Flat Pack (RQFP208))
part A pins: 1 NC, 2 NC, 3 NC, 4 MSEL0 (in), 5 VCCINT (power), 6 VCCINT (power), 9 ADD0 (io), 10 ADD1 (io), 11 ADD2 (io), 13 ADD3 (io), 14 ADD4 (io), 15 GND (power), 16 GND (power), 17 IN (in), 19 ADD5 (io), 20 TDI (io), 21 ADD6 (io), 23 ADD7 (io), 25 ADD8 (io), 26 VCCIO (power), 27 VCCINT (power), 29 ADD9 (io), 30 TCK (io), 31 ADD10 (io), 32 TMS (io), 33 ADD11 (io), 35 ADD12 (io), 36 IN (in), 37 GND (power), 38 GND (power), 39 ADD13 (io), 40 ADD14 (io), 41 ADD15 (io), 42 ADD16 (io), 43 ADD17 (io), 48 VCCINT (power), 49 MSEL1 (in), 50 NC, 51 NC, 52 NC, 53 NC, 54 TRST (in), 55 VCCIO (power), 60 GND (power), 69 VCCIO (power), 78 GND (power), 87 VCCIO (power), 96 GND (power), 102 VCCIO (power), 103 nCONFIG (in), 104 NC, 105 NC, 106 NC, 107 NC, 108 nSTATUS (in), 109 GND (power), 110 GND (power), 114 nWS (io), 116 nRS (io), 119 VCCINT (power), 120 GND (power), 121 IN (in), 127 RDYnBUSY (io), 129 TDO (io), 130 GND (power), 131 VCCIO (power), 134 CLKUSR (io), 137 RDCLK (io), 140 IN (in), 141 VCCINT (power), 142 GND (power), 145 nCS (io), 148 CS (io), 152 GND (power), 153 CONF_DONE (in), 154 NC, 155 NC, 156 NC, 157 NC, 158 DCLK (in), 159 VCCIO (power), 162 DATA0 (io), 164 GND (power), 165 DATA1 (io), 167 DATA2 (io), 171 DATA3 (io), 172 DATA4 (io), 173 VCCIO (power), 174 DATA5 (io), 176 DATA6 (io), 178 DATA7 (io), 182 GND (power), 191 VCCIO (power), 200 GND (power), 206 VCCIO (power), 207 nSP (in), 208 NC
part B pins: 7 I/O (io), 8 I/O (io), 12 I/O (io), 18 I/O (io), 22 I/O (io), 24 I/O (io), 28 I/O (io), 34 I/O (io), 44 I/O (io), 45 I/O (io), 46 I/O (io), 47 I/O (io), 56 I/O (io), 57 I/O (io), 58 I/O (io), 59 I/O (io), 61 I/O (io), 62 I/O (io), 63 I/O (io), 64 I/O (io), 65 I/O (io), 66 I/O (io), 67 I/O (io), 68 I/O (io), 70 I/O (io), 71 I/O (io), 72 I/O (io), 73 I/O (io), 74 I/O (io), 75 I/O (io), 76 I/O (io), 77 I/O (io), 79 I/O (io), 80 I/O (io), 81 I/O (io), 82 I/O (io), 83 I/O (io), 84 I/O (io), 85 I/O (io), 86 I/O (io), 88 I/O (io), 89 I/O (io), 90 I/O (io), 91 I/O (io), 92 I/O (io), 93 I/O (io), 94 I/O (io), 95 I/O (io), 97 I/O (io), 98 I/O (io), 99 I/O (io), 100 I/O (io), 101 I/O (io), 111 I/O (io), 112 I/O (io), 113 I/O (io), 115 I/O (io), 117 I/O (io), 118 I/O (io), 122 I/O (io), 123 I/O (io), 124 SDOUT (io), 125 I/O (io), 126 I/O (io), 128 I/O (io), 132 I/O (io), 133 I/O (io), 135 I/O (io), 136 I/O (io), 138 I/O (io), 139 I/O (io), 143 I/O (io), 144 I/O (io), 146 I/O (io), 147 I/O (io), 149 I/O (io), 150 I/O (io), 151 I/O (io), 160 I/O (io), 161 I/O (io), 163 I/O (io), 166 I/O (io), 168 I/O (io), 169 I/O (io), 170 I/O (io), 175 I/O (io), 177 I/O (io), 179 I/O (io), 180 I/O (io), 181 I/O (io), 183 I/O (io), 184 I/O (io), 185 I/O (io), 186 I/O (io), 187 I/O (io), 188 I/O (io), 189 I/O (io), 190 I/O (io), 192 I/O (io), 193 I/O (io), 194 I/O (io), 195 I/O (io), 196 I/O (io), 197 I/O (io), 198 I/O (io), 199 I/O (io), 201 I/O (io), 202 I/O (io), 203 I/O (io), 204 I/O (io), 205 I/O (io)

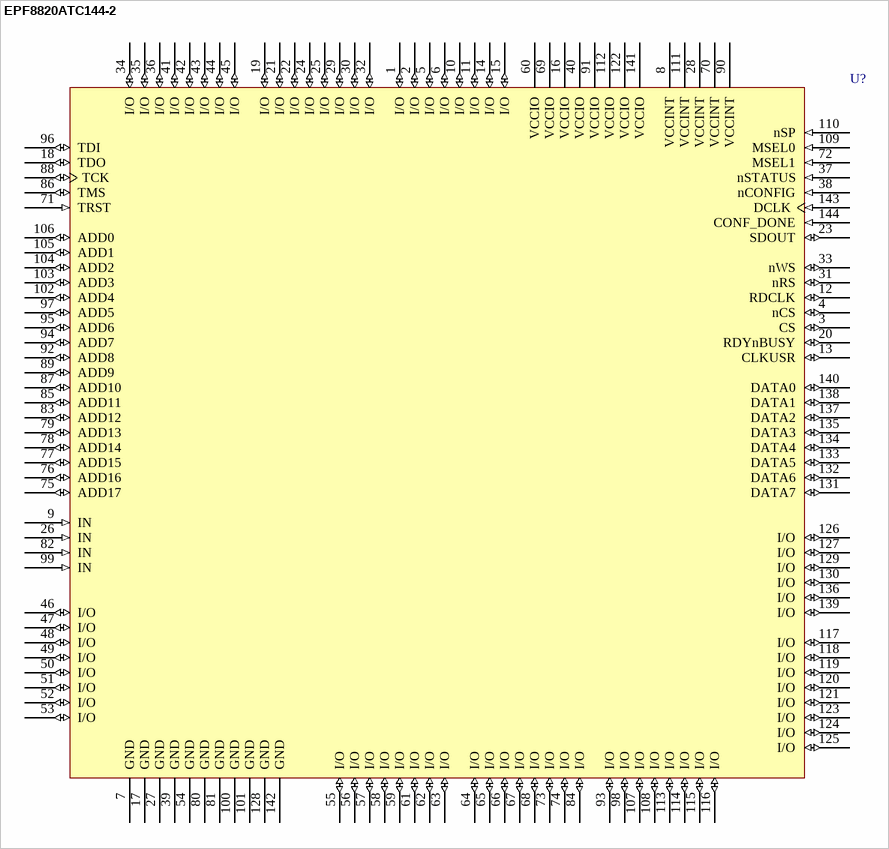
[diagram p17: symbol EPF8820ATC144-2]

## EPF8820ATC144-2
designator U?
FLEX EPF8820A 5.0V PLD, 112 User IO Pins, 144-Pin TQFP, Speed Grade 2, Commercial Grade; Published: 24-Nov-2000; LatestRevisionDate: 13-Apr-2006; LatestRevisionNote: IPC-7351 Footprint Added.; DatasheetVersion: ver11.1, Jan-2003; PackageVersion: ver14.1, Oct-2005; PackageReference: TQFP144; Publisher: Altium Limited; PackageDescription: 144-Pin Plastic Thin Quad Flat Pack (TQFP144); Code_JEDEC: MS-026-BFB; ComponentLink1Description: Manufacturer Link; ComponentLink1URL: http://www.altera.com/products/devices/flex8k/f8k-index.html; ComponentLink2Description: Datasheet; ComponentLink2URL: http://www.altera.com/literature/ds/dsf8k.pdf
footprint TQFP144_N (Thin QFP, 144-Leads, Body 20x20mm, Pitch 0.5mm, IPC Medium Density)
footprint TQFP144_L (Thin QFP, 144-Leads, Body 20x20mm, Pitch 0.5mm, IPC High Density)
footprint TQFP144_M (Thin QFP, 144-Leads, Body 20x20mm, Pitch 0.5mm, IPC Low Density)
3D model EPF8820A-TQFP144 (144-Pin Plastic Thin Quad Flat Pack (TQFP144))
pins: 1 I/O (io), 2 I/O (io), 3 CS (io), 4 nCS (io), 5 I/O (io), 6 I/O (io), 7 GND (power), 8 VCCINT (power), 9 IN (in), 10 I/O (io), 11 I/O (io), 12 RDCLK (io), 13 CLKUSR (io), 14 I/O (io), 15 I/O (io), 16 VCCIO (power), 17 GND (power), 18 TDO (io), 19 I/O (io), 20 RDYnBUSY (io), 21 I/O (io), 22 I/O (io), 23 SDOUT (io), 24 I/O (io), 25 I/O (io), 26 IN (in), 27 GND (power), 28 VCCINT (power), 29 I/O (io), 30 I/O (io), 31 nRS (io), 32 I/O (io), 33 nWS (io), 34 I/O (io), 35 I/O (io), 36 I/O (io), 37 nSTATUS (in), 38 nCONFIG (in), 39 GND (power), 40 VCCIO (power), 41 I/O (io), 42 I/O (io), 43 I/O (io), 44 I/O (io), 45 I/O (io), 46 I/O (io), 47 I/O (io), 48 I/O (io), 49 I/O (io), 50 I/O (io), 51 I/O (io), 52 I/O (io), 53 I/O (io), 54 GND (power), 55 I/O (io), 56 I/O (io), 57 I/O (io), 58 I/O (io), 59 I/O (io), 60 VCCIO (power), 61 I/O (io), 62 I/O (io), 63 I/O (io), 64 I/O (io), 65 I/O (io), 66 I/O (io), 67 I/O (io), 68 I/O (io), 69 VCCIO (power), 70 VCCINT (power), 71 TRST (in), 72 MSEL1 (in), 73 I/O (io), 74 I/O (io), 75 ADD17 (io), 76 ADD16 (io), 77 ADD15 (io), 78 ADD14 (io), 79 ADD13 (io), 80 GND (power), 81 GND (power), 82 IN (in), 83 ADD12 (io), 84 I/O (io), 85 ADD11 (io), 86 TMS (io), 87 ADD10 (io), 88 TCK (io), 89 ADD9 (io), 90 VCCINT (power), 91 VCCIO (power), 92 ADD8 (io), 93 I/O (io), 94 ADD7 (io), 95 ADD6 (io), 96 TDI (io), 97 ADD5 (io), 98 I/O (io), 99 IN (in), 100 GND (power), 101 GND (power), 102 ADD4 (io), 103 ADD3 (io), 104 ADD2 (io), 105 ADD1 (io), 106 ADD0 (io), 107 I/O (io), 108 I/O (io), 109 MSEL0 (in), 110 nSP (in), 111 VCCINT (power), 112 VCCIO (power), 113 I/O (io), 114 I/O (io), 115 I/O (io), 116 I/O (io), 117 I/O (io), 118 I/O (io), 119 I/O (io), 120 I/O (io), 121 I/O (io), 122 VCCIO (power), 123 I/O (io), 124 I/O (io), 125 I/O (io), 126 I/O (io), 127 I/O (io), 128 GND (power), 129 I/O (io), 130 I/O (io), 131 DATA7 (io), 132 DATA6 (io), 133 DATA5 (io), 134 DATA4 (io), 135 DATA3 (io), 136 I/O (io), 137 DATA2 (io), 138 DATA1 (io), 139 I/O (io), 140 DATA0 (io), 141 VCCIO (power), 142 GND (power), 143 DCLK (in), 144 CONF_DONE (in)

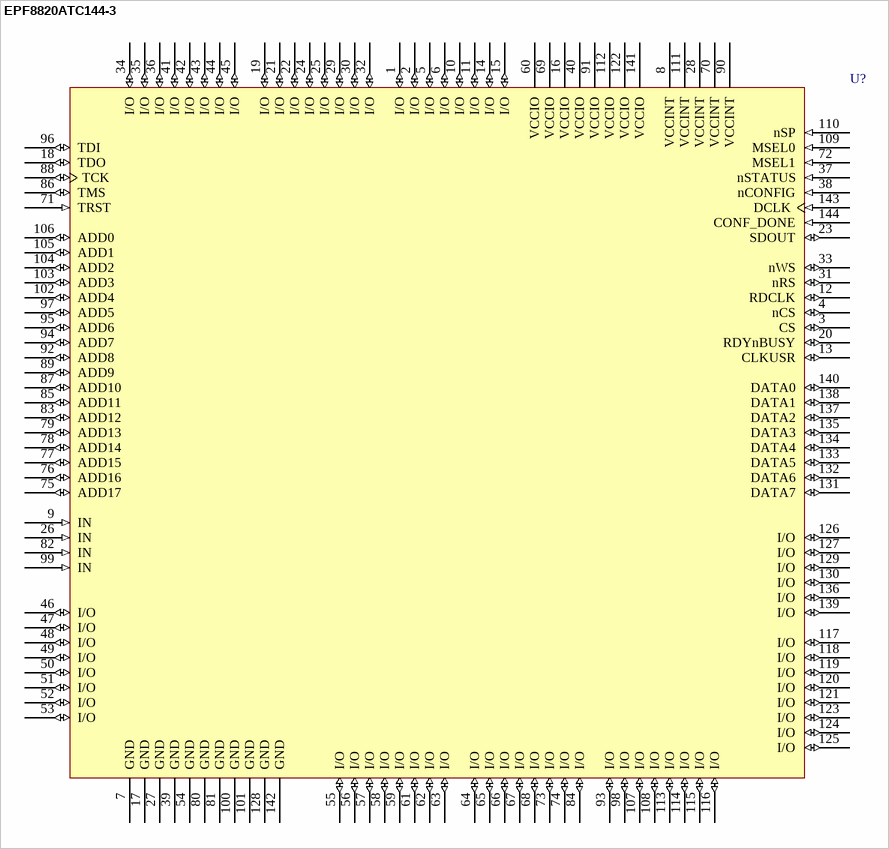
[diagram p18: symbol EPF8820ATC144-3]

## EPF8820ATC144-3
designator U?
FLEX EPF8820A 5.0V PLD, 112 User IO Pins, 144-Pin TQFP, Speed Grade 3, Commercial Grade; Published: 24-Nov-2000; LatestRevisionDate: 13-Apr-2006; LatestRevisionNote: IPC-7351 Footprint Added.; DatasheetVersion: ver11.1, Jan-2003; PackageVersion: ver14.1, Oct-2005; PackageReference: TQFP144; Publisher: Altium Limited; PackageDescription: 144-Pin Plastic Thin Quad Flat Pack (TQFP144); Code_JEDEC: MS-026-BFB; ComponentLink1Description: Manufacturer Link; ComponentLink1URL: http://www.altera.com/products/devices/flex8k/f8k-index.html; ComponentLink2Description: Datasheet; ComponentLink2URL: http://www.altera.com/literature/ds/dsf8k.pdf
footprint TQFP144_N (Thin QFP, 144-Leads, Body 20x20mm, Pitch 0.5mm, IPC Medium Density)
footprint TQFP144_L (Thin QFP, 144-Leads, Body 20x20mm, Pitch 0.5mm, IPC High Density)
footprint TQFP144_M (Thin QFP, 144-Leads, Body 20x20mm, Pitch 0.5mm, IPC Low Density)
3D model EPF8820A-TQFP144 (144-Pin Plastic Thin Quad Flat Pack (TQFP144))
pins: 1 I/O (io), 2 I/O (io), 3 CS (io), 4 nCS (io), 5 I/O (io), 6 I/O (io), 7 GND (power), 8 VCCINT (power), 9 IN (in), 10 I/O (io), 11 I/O (io), 12 RDCLK (io), 13 CLKUSR (io), 14 I/O (io), 15 I/O (io), 16 VCCIO (power), 17 GND (power), 18 TDO (io), 19 I/O (io), 20 RDYnBUSY (io), 21 I/O (io), 22 I/O (io), 23 SDOUT (io), 24 I/O (io), 25 I/O (io), 26 IN (in), 27 GND (power), 28 VCCINT (power), 29 I/O (io), 30 I/O (io), 31 nRS (io), 32 I/O (io), 33 nWS (io), 34 I/O (io), 35 I/O (io), 36 I/O (io), 37 nSTATUS (in), 38 nCONFIG (in), 39 GND (power), 40 VCCIO (power), 41 I/O (io), 42 I/O (io), 43 I/O (io), 44 I/O (io), 45 I/O (io), 46 I/O (io), 47 I/O (io), 48 I/O (io), 49 I/O (io), 50 I/O (io), 51 I/O (io), 52 I/O (io), 53 I/O (io), 54 GND (power), 55 I/O (io), 56 I/O (io), 57 I/O (io), 58 I/O (io), 59 I/O (io), 60 VCCIO (power), 61 I/O (io), 62 I/O (io), 63 I/O (io), 64 I/O (io), 65 I/O (io), 66 I/O (io), 67 I/O (io), 68 I/O (io), 69 VCCIO (power), 70 VCCINT (power), 71 TRST (in), 72 MSEL1 (in), 73 I/O (io), 74 I/O (io), 75 ADD17 (io), 76 ADD16 (io), 77 ADD15 (io), 78 ADD14 (io), 79 ADD13 (io), 80 GND (power), 81 GND (power), 82 IN (in), 83 ADD12 (io), 84 I/O (io), 85 ADD11 (io), 86 TMS (io), 87 ADD10 (io), 88 TCK (io), 89 ADD9 (io), 90 VCCINT (power), 91 VCCIO (power), 92 ADD8 (io), 93 I/O (io), 94 ADD7 (io), 95 ADD6 (io), 96 TDI (io), 97 ADD5 (io), 98 I/O (io), 99 IN (in), 100 GND (power), 101 GND (power), 102 ADD4 (io), 103 ADD3 (io), 104 ADD2 (io), 105 ADD1 (io), 106 ADD0 (io), 107 I/O (io), 108 I/O (io), 109 MSEL0 (in), 110 nSP (in), 111 VCCINT (power), 112 VCCIO (power), 113 I/O (io), 114 I/O (io), 115 I/O (io), 116 I/O (io), 117 I/O (io), 118 I/O (io), 119 I/O (io), 120 I/O (io), 121 I/O (io), 122 VCCIO (power), 123 I/O (io), 124 I/O (io), 125 I/O (io), 126 I/O (io), 127 I/O (io), 128 GND (power), 129 I/O (io), 130 I/O (io), 131 DATA7 (io), 132 DATA6 (io), 133 DATA5 (io), 134 DATA4 (io), 135 DATA3 (io), 136 I/O (io), 137 DATA2 (io), 138 DATA1 (io), 139 I/O (io), 140 DATA0 (io), 141 VCCIO (power), 142 GND (power), 143 DCLK (in), 144 CONF_DONE (in)

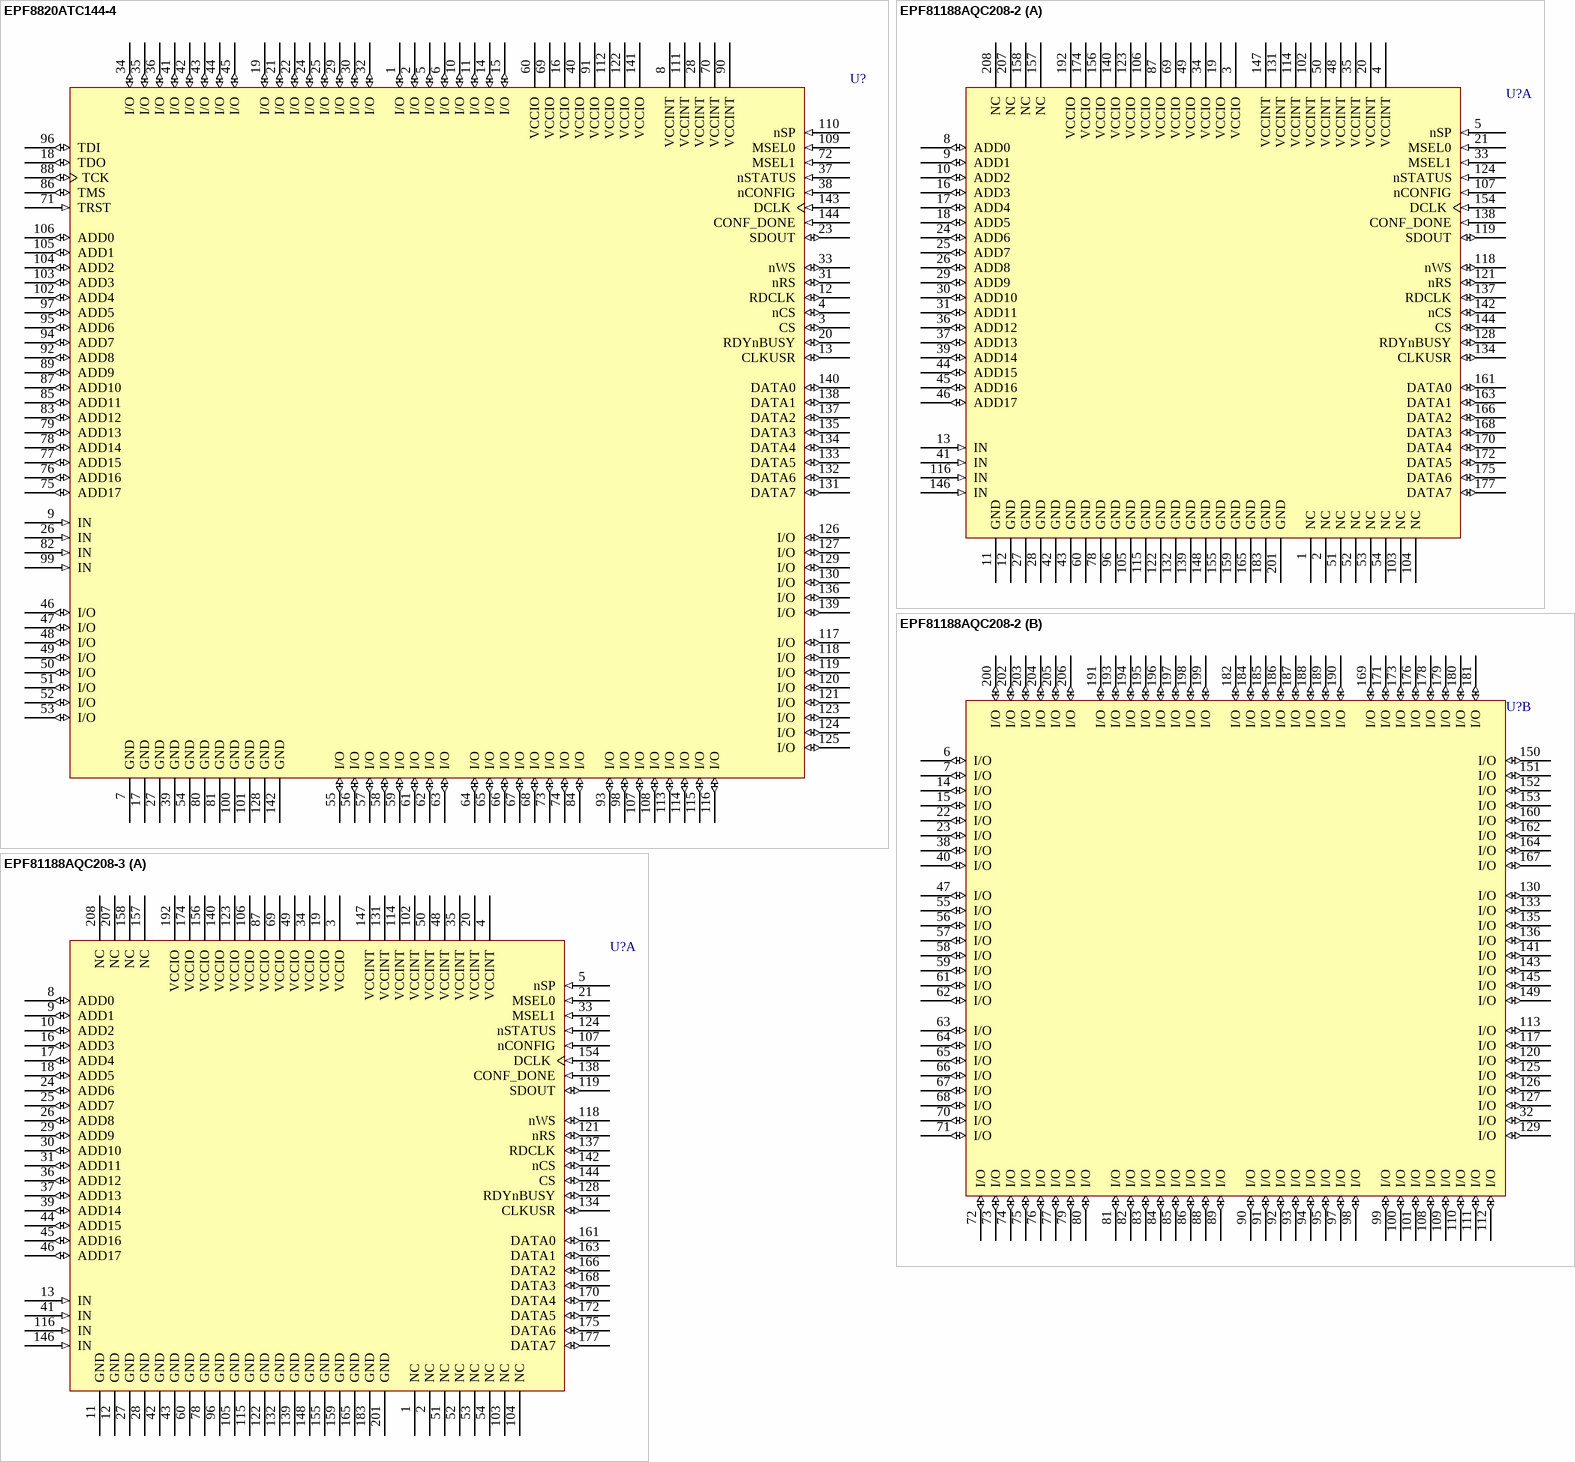
[diagram p19: symbols EPF8820ATC144-4 to EPF81188AQC208-3]

## EPF8820ATC144-4
designator U?
FLEX EPF8820A 5.0V PLD, 112 User IO Pins, 144-Pin TQFP, Speed Grade 4, Commercial Grade; Published: 24-Nov-2000; LatestRevisionDate: 13-Apr-2006; LatestRevisionNote: IPC-7351 Footprint Added.; DatasheetVersion: ver11.1, Jan-2003; PackageVersion: ver14.1, Oct-2005; PackageReference: TQFP144; Publisher: Altium Limited; PackageDescription: 144-Pin Plastic Thin Quad Flat Pack (TQFP144); Code_JEDEC: MS-026-BFB; ComponentLink1Description: Manufacturer Link; ComponentLink1URL: http://www.altera.com/products/devices/flex8k/f8k-index.html; ComponentLink2Description: Datasheet; ComponentLink2URL: http://www.altera.com/literature/ds/dsf8k.pdf
footprint TQFP144_N (Thin QFP, 144-Leads, Body 20x20mm, Pitch 0.5mm, IPC Medium Density)
footprint TQFP144_L (Thin QFP, 144-Leads, Body 20x20mm, Pitch 0.5mm, IPC High Density)
footprint TQFP144_M (Thin QFP, 144-Leads, Body 20x20mm, Pitch 0.5mm, IPC Low Density)
3D model EPF8820A-TQFP144 (144-Pin Plastic Thin Quad Flat Pack (TQFP144))
pins: 1 I/O (io), 2 I/O (io), 3 CS (io), 4 nCS (io), 5 I/O (io), 6 I/O (io), 7 GND (power), 8 VCCINT (power), 9 IN (in), 10 I/O (io), 11 I/O (io), 12 RDCLK (io), 13 CLKUSR (io), 14 I/O (io), 15 I/O (io), 16 VCCIO (power), 17 GND (power), 18 TDO (io), 19 I/O (io), 20 RDYnBUSY (io), 21 I/O (io), 22 I/O (io), 23 SDOUT (io), 24 I/O (io), 25 I/O (io), 26 IN (in), 27 GND (power), 28 VCCINT (power), 29 I/O (io), 30 I/O (io), 31 nRS (io), 32 I/O (io), 33 nWS (io), 34 I/O (io), 35 I/O (io), 36 I/O (io), 37 nSTATUS (in), 38 nCONFIG (in), 39 GND (power), 40 VCCIO (power), 41 I/O (io), 42 I/O (io), 43 I/O (io), 44 I/O (io), 45 I/O (io), 46 I/O (io), 47 I/O (io), 48 I/O (io), 49 I/O (io), 50 I/O (io), 51 I/O (io), 52 I/O (io), 53 I/O (io), 54 GND (power), 55 I/O (io), 56 I/O (io), 57 I/O (io), 58 I/O (io), 59 I/O (io), 60 VCCIO (power), 61 I/O (io), 62 I/O (io), 63 I/O (io), 64 I/O (io), 65 I/O (io), 66 I/O (io), 67 I/O (io), 68 I/O (io), 69 VCCIO (power), 70 VCCINT (power), 71 TRST (in), 72 MSEL1 (in), 73 I/O (io), 74 I/O (io), 75 ADD17 (io), 76 ADD16 (io), 77 ADD15 (io), 78 ADD14 (io), 79 ADD13 (io), 80 GND (power), 81 GND (power), 82 IN (in), 83 ADD12 (io), 84 I/O (io), 85 ADD11 (io), 86 TMS (io), 87 ADD10 (io), 88 TCK (io), 89 ADD9 (io), 90 VCCINT (power), 91 VCCIO (power), 92 ADD8 (io), 93 I/O (io), 94 ADD7 (io), 95 ADD6 (io), 96 TDI (io), 97 ADD5 (io), 98 I/O (io), 99 IN (in), 100 GND (power), 101 GND (power), 102 ADD4 (io), 103 ADD3 (io), 104 ADD2 (io), 105 ADD1 (io), 106 ADD0 (io), 107 I/O (io), 108 I/O (io), 109 MSEL0 (in), 110 nSP (in), 111 VCCINT (power), 112 VCCIO (power), 113 I/O (io), 114 I/O (io), 115 I/O (io), 116 I/O (io), 117 I/O (io), 118 I/O (io), 119 I/O (io), 120 I/O (io), 121 I/O (io), 122 VCCIO (power), 123 I/O (io), 124 I/O (io), 125 I/O (io), 126 I/O (io), 127 I/O (io), 128 GND (power), 129 I/O (io), 130 I/O (io), 131 DATA7 (io), 132 DATA6 (io), 133 DATA5 (io), 134 DATA4 (io), 135 DATA3 (io), 136 I/O (io), 137 DATA2 (io), 138 DATA1 (io), 139 I/O (io), 140 DATA0 (io), 141 VCCIO (power), 142 GND (power), 143 DCLK (in), 144 CONF_DONE (in)

## EPF81188AQC208-2
designator U?
FLEX EPF81188A 5.0V PLD, 148 User IO Pins, 208-Pin PQFP, Speed Grade 2, Commercial Grade; Published: 24-Nov-2000; LatestRevisionDate: 13-Apr-2006; LatestRevisionNote: IPC-7351 Footprint Added.; DatasheetVersion: ver11.1, Jan-2003; PackageVersion: ver14.1, Oct-2005; PackageReference: PQFP208; Publisher: Altium Limited; PackageDescription: 208-Pin Plastic Quad Flat Pack (PQFP208); Code_JEDEC: MS-029-FA-1; ComponentLink1Description: Manufacturer Link; ComponentLink1URL: http://www.altera.com/products/devices/flex8k/f8k-index.html; ComponentLink2Description: Datasheet; ComponentLink2URL: http://www.altera.com/literature/ds/dsf8k.pdf
footprint PQFP208_N (Shrink QFP, 208-Leads, Body 28x28mm, Pitch 0.5mm, IPC Medium Density)
footprint PQFP208_L (Shrink QFP, 208-Leads, Body 28x28mm, Pitch 0.5mm, IPC High Density)
footprint PQFP208_M (Shrink QFP, 208-Leads, Body 28x28mm, Pitch 0.5mm, IPC Low Density)
3D model EPF81188A-PQFP208 (208-Pin Plastic Quad Flat Pack (PQFP208))
part A pins: 1 NC, 2 NC, 3 VCCIO (power), 4 VCCINT (power), 5 nSP (in), 8 ADD0 (io), 9 ADD1 (io), 10 ADD2 (io), 11 GND (power), 12 GND (power), 13 IN (in), 16 ADD3 (io), 17 ADD4 (io), 18 ADD5 (io), 19 VCCIO (power), 20 VCCINT (power), 21 MSEL0 (in), 24 ADD6 (io), 25 ADD7 (io), 26 ADD8 (io), 27 GND (power), 28 GND (power), 29 ADD9 (io), 30 ADD10 (io), 31 ADD11 (io), 33 MSEL1 (in), 34 VCCIO (power), 35 VCCINT (power), 36 ADD12 (io), 37 ADD13 (io), 39 ADD14 (io), 41 IN (in), 42 GND (power), 43 GND (power), 44 ADD15 (io), 45 ADD16 (io), 46 ADD17 (io), 48 VCCINT (power), 49 VCCIO (power), 50 VCCINT (power), 51 NC, 52 NC, 53 NC, 54 NC, 60 GND (power), 69 VCCIO (power), 78 GND (power), 87 VCCIO (power), 96 GND (power), 102 VCCINT (power), 103 NC, 104 NC, 105 GND (power), 106 VCCIO (power), 107 nCONFIG (in), 114 VCCINT (power), 115 GND (power), 116 IN (in), 118 nWS (io), 119 SDOUT (io), 121 nRS (io), 122 GND (power), 123 VCCIO (power), 124 nSTATUS (in), 128 RDYnBUSY (io), 131 VCCINT (power), 132 GND (power), 134 CLKUSR (io), 137 RDCLK (io), 138 CONF_DONE (in), 139 GND (power), 140 VCCIO (power), 142 nCS (io), 144 CS (io), 146 IN (in), 147 VCCINT (power), 148 GND (power), 154 DCLK (in), 155 GND (power), 156 VCCIO (power), 157 NC, 158 NC, 159 GND (power), 161 DATA0 (io), 163 DATA1 (io), 165 GND (power), 166 DATA2 (io), 168 DATA3 (io), 170 DATA4 (io), 172 DATA5 (io), 174 VCCIO (power), 175 DATA6 (io), 177 DATA7 (io), 183 GND (power), 192 VCCIO (power), 201 GND (power), 207 NC, 208 NC
part B pins: 6 I/O (io), 7 I/O (io), 14 I/O (io), 15 I/O (io), 22 I/O (io), 23 I/O (io), 32 I/O (io), 38 I/O (io), 40 I/O (io), 47 I/O (io), 55 I/O (io), 56 I/O (io), 57 I/O (io), 58 I/O (io), 59 I/O (io), 61 I/O (io), 62 I/O (io), 63 I/O (io), 64 I/O (io), 65 I/O (io), 66 I/O (io), 67 I/O (io), 68 I/O (io), 70 I/O (io), 71 I/O (io), 72 I/O (io), 73 I/O (io), 74 I/O (io), 75 I/O (io), 76 I/O (io), 77 I/O (io), 79 I/O (io), 80 I/O (io), 81 I/O (io), 82 I/O (io), 83 I/O (io), 84 I/O (io), 85 I/O (io), 86 I/O (io), 88 I/O (io), 89 I/O (io), 90 I/O (io), 91 I/O (io), 92 I/O (io), 93 I/O (io), 94 I/O (io), 95 I/O (io), 97 I/O (io), 98 I/O (io), 99 I/O (io), 100 I/O (io), 101 I/O (io), 108 I/O (io), 109 I/O (io), 110 I/O (io), 111 I/O (io), 112 I/O (io), 113 I/O (io), 117 I/O (io), 120 I/O (io), 125 I/O (io), 126 I/O (io), 127 I/O (io), 129 I/O (io), 130 I/O (io), 133 I/O (io), 135 I/O (io), 136 I/O (io), 141 I/O (io), 143 I/O (io), 145 I/O (io), 149 I/O (io), 150 I/O (io), 151 I/O (io), 152 I/O (io), 153 I/O (io), 160 I/O (io), 162 I/O (io), 164 I/O (io), 167 I/O (io), 169 I/O (io), 171 I/O (io), 173 I/O (io), 176 I/O (io), 178 I/O (io), 179 I/O (io), 180 I/O (io), 181 I/O (io), 182 I/O (io), 184 I/O (io), 185 I/O (io), 186 I/O (io), 187 I/O (io), 188 I/O (io), 189 I/O (io), 190 I/O (io), 191 I/O (io), 193 I/O (io), 194 I/O (io), 195 I/O (io), 196 I/O (io), 197 I/O (io), 198 I/O (io), 199 I/O (io), 200 I/O (io), 202 I/O (io), 203 I/O (io), 204 I/O (io), 205 I/O (io), 206 I/O (io)

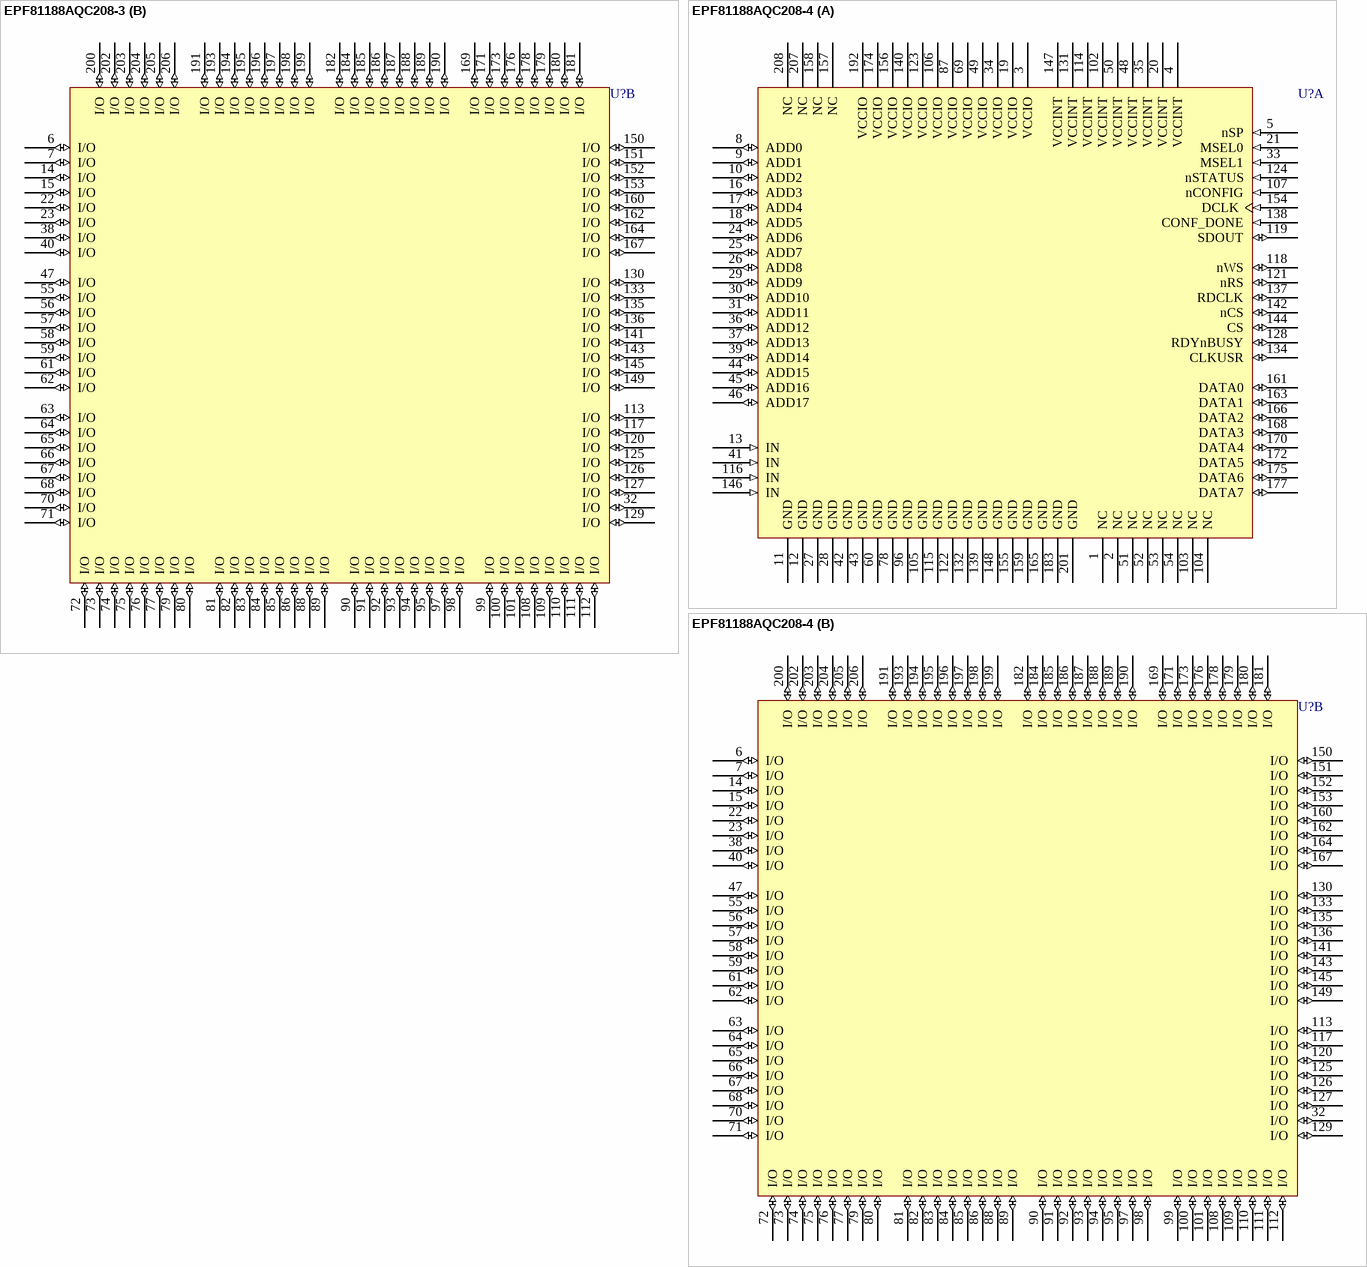
[diagram p20: symbols EPF81188AQC208-3 to EPF81188AQC208-4]

## EPF81188AQC208-3
designator U?
FLEX EPF81188A 5.0V PLD, 148 User IO Pins, 208-Pin PQFP, Speed Grade 3, Commercial Grade; Published: 24-Nov-2000; LatestRevisionDate: 13-Apr-2006; LatestRevisionNote: IPC-7351 Footprint Added.; DatasheetVersion: ver11.1, Jan-2003; PackageVersion: ver14.1, Oct-2005; PackageReference: PQFP208; Publisher: Altium Limited; PackageDescription: 208-Pin Plastic Quad Flat Pack (PQFP208); Code_JEDEC: MS-029-FA-1; ComponentLink1Description: Manufacturer Link; ComponentLink1URL: http://www.altera.com/products/devices/flex8k/f8k-index.html; ComponentLink2Description: Datasheet; ComponentLink2URL: http://www.altera.com/literature/ds/dsf8k.pdf
footprint PQFP208_N (Shrink QFP, 208-Leads, Body 28x28mm, Pitch 0.5mm, IPC Medium Density)
footprint PQFP208_L (Shrink QFP, 208-Leads, Body 28x28mm, Pitch 0.5mm, IPC High Density)
footprint PQFP208_M (Shrink QFP, 208-Leads, Body 28x28mm, Pitch 0.5mm, IPC Low Density)
3D model EPF81188A-PQFP208 (208-Pin Plastic Quad Flat Pack (PQFP208))
part A pins: 1 NC, 2 NC, 3 VCCIO (power), 4 VCCINT (power), 5 nSP (in), 8 ADD0 (io), 9 ADD1 (io), 10 ADD2 (io), 11 GND (power), 12 GND (power), 13 IN (in), 16 ADD3 (io), 17 ADD4 (io), 18 ADD5 (io), 19 VCCIO (power), 20 VCCINT (power), 21 MSEL0 (in), 24 ADD6 (io), 25 ADD7 (io), 26 ADD8 (io), 27 GND (power), 28 GND (power), 29 ADD9 (io), 30 ADD10 (io), 31 ADD11 (io), 33 MSEL1 (in), 34 VCCIO (power), 35 VCCINT (power), 36 ADD12 (io), 37 ADD13 (io), 39 ADD14 (io), 41 IN (in), 42 GND (power), 43 GND (power), 44 ADD15 (io), 45 ADD16 (io), 46 ADD17 (io), 48 VCCINT (power), 49 VCCIO (power), 50 VCCINT (power), 51 NC, 52 NC, 53 NC, 54 NC, 60 GND (power), 69 VCCIO (power), 78 GND (power), 87 VCCIO (power), 96 GND (power), 102 VCCINT (power), 103 NC, 104 NC, 105 GND (power), 106 VCCIO (power), 107 nCONFIG (in), 114 VCCINT (power), 115 GND (power), 116 IN (in), 118 nWS (io), 119 SDOUT (io), 121 nRS (io), 122 GND (power), 123 VCCIO (power), 124 nSTATUS (in), 128 RDYnBUSY (io), 131 VCCINT (power), 132 GND (power), 134 CLKUSR (io), 137 RDCLK (io), 138 CONF_DONE (in), 139 GND (power), 140 VCCIO (power), 142 nCS (io), 144 CS (io), 146 IN (in), 147 VCCINT (power), 148 GND (power), 154 DCLK (in), 155 GND (power), 156 VCCIO (power), 157 NC, 158 NC, 159 GND (power), 161 DATA0 (io), 163 DATA1 (io), 165 GND (power), 166 DATA2 (io), 168 DATA3 (io), 170 DATA4 (io), 172 DATA5 (io), 174 VCCIO (power), 175 DATA6 (io), 177 DATA7 (io), 183 GND (power), 192 VCCIO (power), 201 GND (power), 207 NC, 208 NC
part B pins: 6 I/O (io), 7 I/O (io), 14 I/O (io), 15 I/O (io), 22 I/O (io), 23 I/O (io), 32 I/O (io), 38 I/O (io), 40 I/O (io), 47 I/O (io), 55 I/O (io), 56 I/O (io), 57 I/O (io), 58 I/O (io), 59 I/O (io), 61 I/O (io), 62 I/O (io), 63 I/O (io), 64 I/O (io), 65 I/O (io), 66 I/O (io), 67 I/O (io), 68 I/O (io), 70 I/O (io), 71 I/O (io), 72 I/O (io), 73 I/O (io), 74 I/O (io), 75 I/O (io), 76 I/O (io), 77 I/O (io), 79 I/O (io), 80 I/O (io), 81 I/O (io), 82 I/O (io), 83 I/O (io), 84 I/O (io), 85 I/O (io), 86 I/O (io), 88 I/O (io), 89 I/O (io), 90 I/O (io), 91 I/O (io), 92 I/O (io), 93 I/O (io), 94 I/O (io), 95 I/O (io), 97 I/O (io), 98 I/O (io), 99 I/O (io), 100 I/O (io), 101 I/O (io), 108 I/O (io), 109 I/O (io), 110 I/O (io), 111 I/O (io), 112 I/O (io), 113 I/O (io), 117 I/O (io), 120 I/O (io), 125 I/O (io), 126 I/O (io), 127 I/O (io), 129 I/O (io), 130 I/O (io), 133 I/O (io), 135 I/O (io), 136 I/O (io), 141 I/O (io), 143 I/O (io), 145 I/O (io), 149 I/O (io), 150 I/O (io), 151 I/O (io), 152 I/O (io), 153 I/O (io), 160 I/O (io), 162 I/O (io), 164 I/O (io), 167 I/O (io), 169 I/O (io), 171 I/O (io), 173 I/O (io), 176 I/O (io), 178 I/O (io), 179 I/O (io), 180 I/O (io), 181 I/O (io), 182 I/O (io), 184 I/O (io), 185 I/O (io), 186 I/O (io), 187 I/O (io), 188 I/O (io), 189 I/O (io), 190 I/O (io), 191 I/O (io), 193 I/O (io), 194 I/O (io), 195 I/O (io), 196 I/O (io), 197 I/O (io), 198 I/O (io), 199 I/O (io), 200 I/O (io), 202 I/O (io), 203 I/O (io), 204 I/O (io), 205 I/O (io), 206 I/O (io)

## EPF81188AQC208-4
designator U?
FLEX EPF81188A 5.0V PLD, 148 User IO Pins, 208-Pin PQFP, Speed Grade 4, Commercial Grade; Published: 24-Nov-2000; LatestRevisionDate: 13-Apr-2006; LatestRevisionNote: IPC-7351 Footprint Added.; DatasheetVersion: ver11.1, Jan-2003; PackageVersion: ver14.1, Oct-2005; PackageReference: PQFP208; Publisher: Altium Limited; PackageDescription: 208-Pin Plastic Quad Flat Pack (PQFP208); Code_JEDEC: MS-029-FA-1; ComponentLink1Description: Manufacturer Link; ComponentLink1URL: http://www.altera.com/products/devices/flex8k/f8k-index.html; ComponentLink2Description: Datasheet; ComponentLink2URL: http://www.altera.com/literature/ds/dsf8k.pdf
footprint PQFP208_N (Shrink QFP, 208-Leads, Body 28x28mm, Pitch 0.5mm, IPC Medium Density)
footprint PQFP208_L (Shrink QFP, 208-Leads, Body 28x28mm, Pitch 0.5mm, IPC High Density)
footprint PQFP208_M (Shrink QFP, 208-Leads, Body 28x28mm, Pitch 0.5mm, IPC Low Density)
3D model EPF81188A-PQFP208 (208-Pin Plastic Quad Flat Pack (PQFP208))
part A pins: 1 NC, 2 NC, 3 VCCIO (power), 4 VCCINT (power), 5 nSP (in), 8 ADD0 (io), 9 ADD1 (io), 10 ADD2 (io), 11 GND (power), 12 GND (power), 13 IN (in), 16 ADD3 (io), 17 ADD4 (io), 18 ADD5 (io), 19 VCCIO (power), 20 VCCINT (power), 21 MSEL0 (in), 24 ADD6 (io), 25 ADD7 (io), 26 ADD8 (io), 27 GND (power), 28 GND (power), 29 ADD9 (io), 30 ADD10 (io), 31 ADD11 (io), 33 MSEL1 (in), 34 VCCIO (power), 35 VCCINT (power), 36 ADD12 (io), 37 ADD13 (io), 39 ADD14 (io), 41 IN (in), 42 GND (power), 43 GND (power), 44 ADD15 (io), 45 ADD16 (io), 46 ADD17 (io), 48 VCCINT (power), 49 VCCIO (power), 50 VCCINT (power), 51 NC, 52 NC, 53 NC, 54 NC, 60 GND (power), 69 VCCIO (power), 78 GND (power), 87 VCCIO (power), 96 GND (power), 102 VCCINT (power), 103 NC, 104 NC, 105 GND (power), 106 VCCIO (power), 107 nCONFIG (in), 114 VCCINT (power), 115 GND (power), 116 IN (in), 118 nWS (io), 119 SDOUT (io), 121 nRS (io), 122 GND (power), 123 VCCIO (power), 124 nSTATUS (in), 128 RDYnBUSY (io), 131 VCCINT (power), 132 GND (power), 134 CLKUSR (io), 137 RDCLK (io), 138 CONF_DONE (in), 139 GND (power), 140 VCCIO (power), 142 nCS (io), 144 CS (io), 146 IN (in), 147 VCCINT (power), 148 GND (power), 154 DCLK (in), 155 GND (power), 156 VCCIO (power), 157 NC, 158 NC, 159 GND (power), 161 DATA0 (io), 163 DATA1 (io), 165 GND (power), 166 DATA2 (io), 168 DATA3 (io), 170 DATA4 (io), 172 DATA5 (io), 174 VCCIO (power), 175 DATA6 (io), 177 DATA7 (io), 183 GND (power), 192 VCCIO (power), 201 GND (power), 207 NC, 208 NC
part B pins: 6 I/O (io), 7 I/O (io), 14 I/O (io), 15 I/O (io), 22 I/O (io), 23 I/O (io), 32 I/O (io), 38 I/O (io), 40 I/O (io), 47 I/O (io), 55 I/O (io), 56 I/O (io), 57 I/O (io), 58 I/O (io), 59 I/O (io), 61 I/O (io), 62 I/O (io), 63 I/O (io), 64 I/O (io), 65 I/O (io), 66 I/O (io), 67 I/O (io), 68 I/O (io), 70 I/O (io), 71 I/O (io), 72 I/O (io), 73 I/O (io), 74 I/O (io), 75 I/O (io), 76 I/O (io), 77 I/O (io), 79 I/O (io), 80 I/O (io), 81 I/O (io), 82 I/O (io), 83 I/O (io), 84 I/O (io), 85 I/O (io), 86 I/O (io), 88 I/O (io), 89 I/O (io), 90 I/O (io), 91 I/O (io), 92 I/O (io), 93 I/O (io), 94 I/O (io), 95 I/O (io), 97 I/O (io), 98 I/O (io), 99 I/O (io), 100 I/O (io), 101 I/O (io), 108 I/O (io), 109 I/O (io), 110 I/O (io), 111 I/O (io), 112 I/O (io), 113 I/O (io), 117 I/O (io), 120 I/O (io), 125 I/O (io), 126 I/O (io), 127 I/O (io), 129 I/O (io), 130 I/O (io), 133 I/O (io), 135 I/O (io), 136 I/O (io), 141 I/O (io), 143 I/O (io), 145 I/O (io), 149 I/O (io), 150 I/O (io), 151 I/O (io), 152 I/O (io), 153 I/O (io), 160 I/O (io), 162 I/O (io), 164 I/O (io), 167 I/O (io), 169 I/O (io), 171 I/O (io), 173 I/O (io), 176 I/O (io), 178 I/O (io), 179 I/O (io), 180 I/O (io), 181 I/O (io), 182 I/O (io), 184 I/O (io), 185 I/O (io), 186 I/O (io), 187 I/O (io), 188 I/O (io), 189 I/O (io), 190 I/O (io), 191 I/O (io), 193 I/O (io), 194 I/O (io), 195 I/O (io), 196 I/O (io), 197 I/O (io), 198 I/O (io), 199 I/O (io), 200 I/O (io), 202 I/O (io), 203 I/O (io), 204 I/O (io), 205 I/O (io), 206 I/O (io)

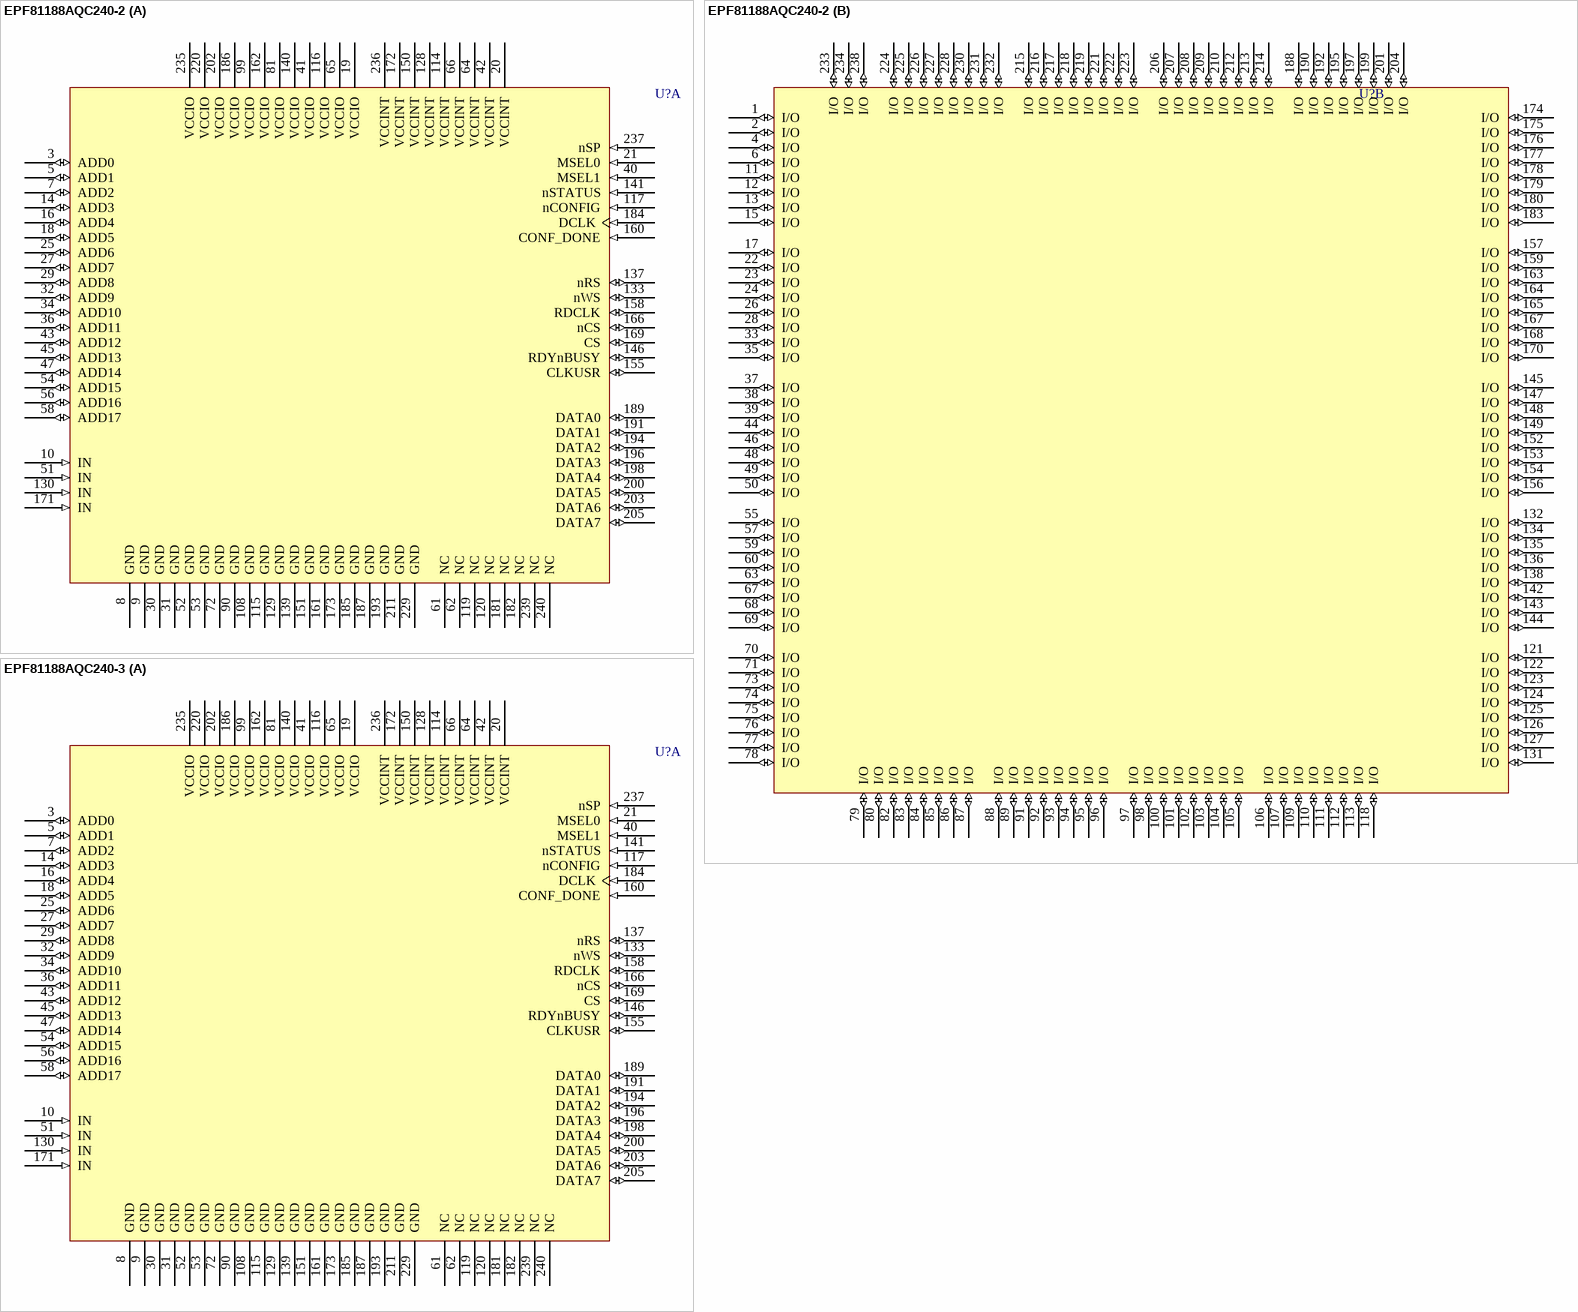
[diagram p21: symbols EPF81188AQC240-2 to EPF81188AQC240-3]